# Altium schematic symbol library SparkFun-Connectors.SCHLIB: 399 symbols (part 3 of 4)
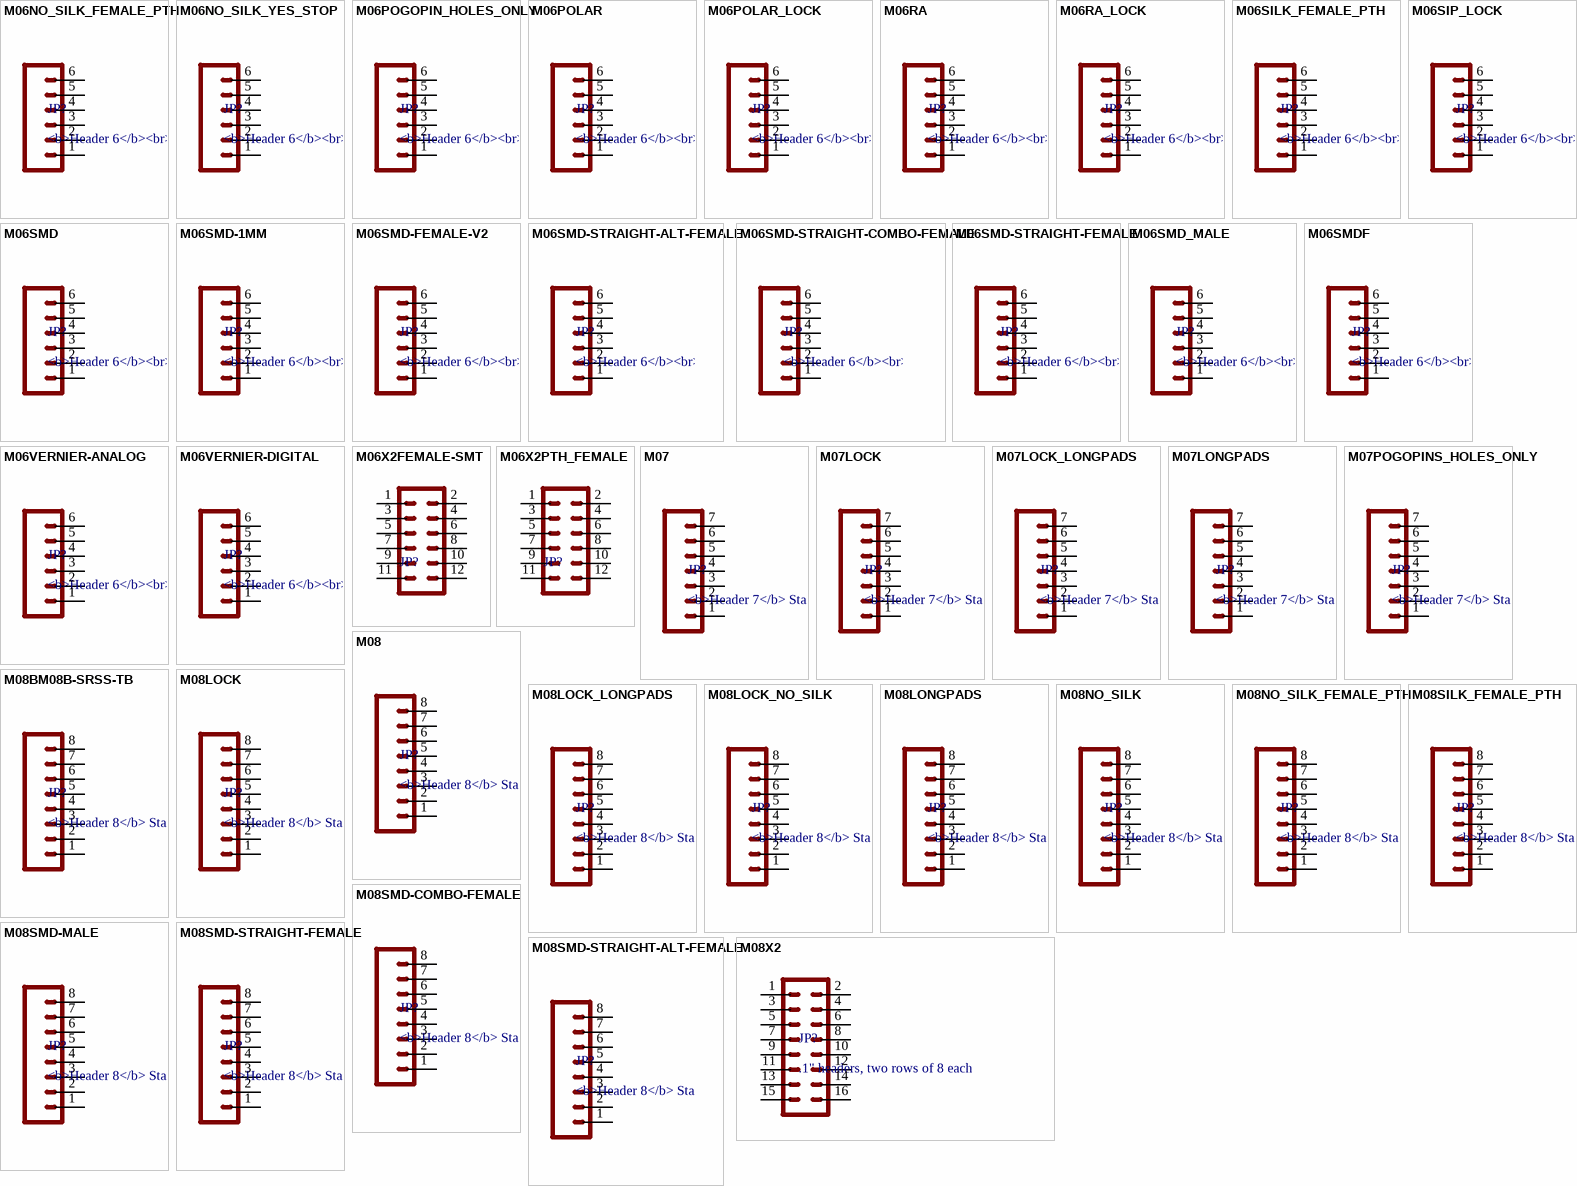
[diagram p16: symbols M06NO_SILK_FEMALE_PTH to M08X2]

## M07POGOPINS_HOLES_ONLY
designator JP?, comment <b>Header 7</b> / Standard 7-pin 0.1" header. Use with straight break away headers (SKU : PRT-00116), right angle break away headers (PRT-00553), swiss pins (PRT-00743), machine pins (PRT-00117), and female headers (PRT-00115).  NOTES ON THE VARIANTS LOCK and LOCK_LONGPADS... This footprint was designed to help hold the alignment of a through-hole component (i.e. 7-pin header) while soldering it into place. You may notice that each hole has been shifted either up or down by 0.005 of an inch from it's more standard position (which is usually a perfectly straight line). This slight alteration caused the pins (the squares in the middle) to touch the edges of the holes. Because they are alternating, it causes a "brace" to hold the header in place. 0.005 has proven to be the perfect amount of "off-center" position when using our standard breakaway headers. Although looks a little odd when you look at the bare footprint, once you have a header in there, the alteration is very hard to notice. Also, if you push a header all the way into place, it is covered up entirely on the bottom side. This idea of altering the position of holes to aid alignment will be further integrated into the Sparkfun Library for other footprints. It can help hold any component with 3 or more connection pins.
footprint 1X07_HOLES_ONLY
pins: 1, 2, 3, 4, 5, 6, 7

## M08
designator JP?, comment <b>Header 8</b> / Standard 8-pin 0.1" header. Use with straight break away headers (SKU : PRT-00116), right angle break away headers (PRT-00553), swiss pins (PRT-00743), machine pins (PRT-00117), and female headers (PRT-00115).
footprint 1X08_ROUND
pins: 1, 2, 3, 4, 5, 6, 7, 8

## M08BM08B-SRSS-TB
designator JP?, comment <b>Header 8</b> / Standard 8-pin 0.1" header. Use with straight break away headers (SKU : PRT-00116), right angle break away headers (PRT-00553), swiss pins (PRT-00743), machine pins (PRT-00117), and female headers (PRT-00115).
footprint BM08B-SRSS-TB
pins: 1, 2, 3, 4, 5, 6, 7, 8

## M08LOCK
designator JP?, comment <b>Header 8</b> / Standard 8-pin 0.1" header. Use with straight break away headers (SKU : PRT-00116), right angle break away headers (PRT-00553), swiss pins (PRT-00743), machine pins (PRT-00117), and female headers (PRT-00115).
footprint 1X08_LOCK
pins: 1, 2, 3, 4, 5, 6, 7, 8

## M08LOCK_LONGPADS
designator JP?, comment <b>Header 8</b> / Standard 8-pin 0.1" header. Use with straight break away headers (SKU : PRT-00116), right angle break away headers (PRT-00553), swiss pins (PRT-00743), machine pins (PRT-00117), and female headers (PRT-00115).
footprint 1X08_LOCK_LONGPADS
pins: 1, 2, 3, 4, 5, 6, 7, 8

## M08LOCK_NO_SILK
designator JP?, comment <b>Header 8</b> / Standard 8-pin 0.1" header. Use with straight break away headers (SKU : PRT-00116), right angle break away headers (PRT-00553), swiss pins (PRT-00743), machine pins (PRT-00117), and female headers (PRT-00115).
footprint 1X08_LOCK_NO_SILK
pins: 1, 2, 3, 4, 5, 6, 7, 8

## M08LONGPADS
designator JP?, comment <b>Header 8</b> / Standard 8-pin 0.1" header. Use with straight break away headers (SKU : PRT-00116), right angle break away headers (PRT-00553), swiss pins (PRT-00743), machine pins (PRT-00117), and female headers (PRT-00115).
footprint 1X08_LONGPADS
pins: 1, 2, 3, 4, 5, 6, 7, 8

## M08NO_SILK
designator JP?, comment <b>Header 8</b> / Standard 8-pin 0.1" header. Use with straight break away headers (SKU : PRT-00116), right angle break away headers (PRT-00553), swiss pins (PRT-00743), machine pins (PRT-00117), and female headers (PRT-00115).
footprint 1X08_PIN1_NO_SILK
pins: 1, 2, 3, 4, 5, 6, 7, 8

## M08NO_SILK_FEMALE_PTH
designator JP?, comment <b>Header 8</b> / Standard 8-pin 0.1" header. Use with straight break away headers (SKU : PRT-00116), right angle break away headers (PRT-00553), swiss pins (PRT-00743), machine pins (PRT-00117), and female headers (PRT-00115).
PROD_ID: CONN-08438
footprint 1X08_NO_SILK
pins: 1, 2, 3, 4, 5, 6, 7, 8

## M08SILK_FEMALE_PTH
designator JP?, comment <b>Header 8</b> / Standard 8-pin 0.1" header. Use with straight break away headers (SKU : PRT-00116), right angle break away headers (PRT-00553), swiss pins (PRT-00743), machine pins (PRT-00117), and female headers (PRT-00115).
PROD_ID: CONN-08438
footprint 1X08
pins: 1, 2, 3, 4, 5, 6, 7, 8

## M08SMD-COMBO-FEMALE
designator JP?, comment <b>Header 8</b> / Standard 8-pin 0.1" header. Use with straight break away headers (SKU : PRT-00116), right angle break away headers (PRT-00553), swiss pins (PRT-00743), machine pins (PRT-00117), and female headers (PRT-00115).
PROD_ID: CONN-10204
footprint 1X08_SMD_COMBINED
pins: 1, 2, 3, 4, 5, 6, 7, 8

## M08SMD-MALE
designator JP?, comment <b>Header 8</b> / Standard 8-pin 0.1" header. Use with straight break away headers (SKU : PRT-00116), right angle break away headers (PRT-00553), swiss pins (PRT-00743), machine pins (PRT-00117), and female headers (PRT-00115).
PROD_ID: CONN-11292
footprint 1X08_SMD_MALE
pins: 1, 2, 3, 4, 5, 6, 7, 8

## M08SMD-STRAIGHT-ALT-FEMALE
designator JP?, comment <b>Header 8</b> / Standard 8-pin 0.1" header. Use with straight break away headers (SKU : PRT-00116), right angle break away headers (PRT-00553), swiss pins (PRT-00743), machine pins (PRT-00117), and female headers (PRT-00115).
PROD_ID: CONN-10204
footprint 1X08_SMD_ALT
pins: 1, 2, 3, 4, 5, 6, 7, 8

## M08SMD-STRAIGHT-FEMALE
designator JP?, comment <b>Header 8</b> / Standard 8-pin 0.1" header. Use with straight break away headers (SKU : PRT-00116), right angle break away headers (PRT-00553), swiss pins (PRT-00743), machine pins (PRT-00117), and female headers (PRT-00115).
PROD_ID: CONN-10204
footprint 1X08_SMD
pins: 1, 2, 3, 4, 5, 6, 7, 8

## M08X2
designator JP?, comment .1" headers, two rows of 8 each
footprint 2X8
pins: 1, 2, 3, 4, 5, 6, 7, 8, 9, 10, 11, 12, 13, 14, 15, 16

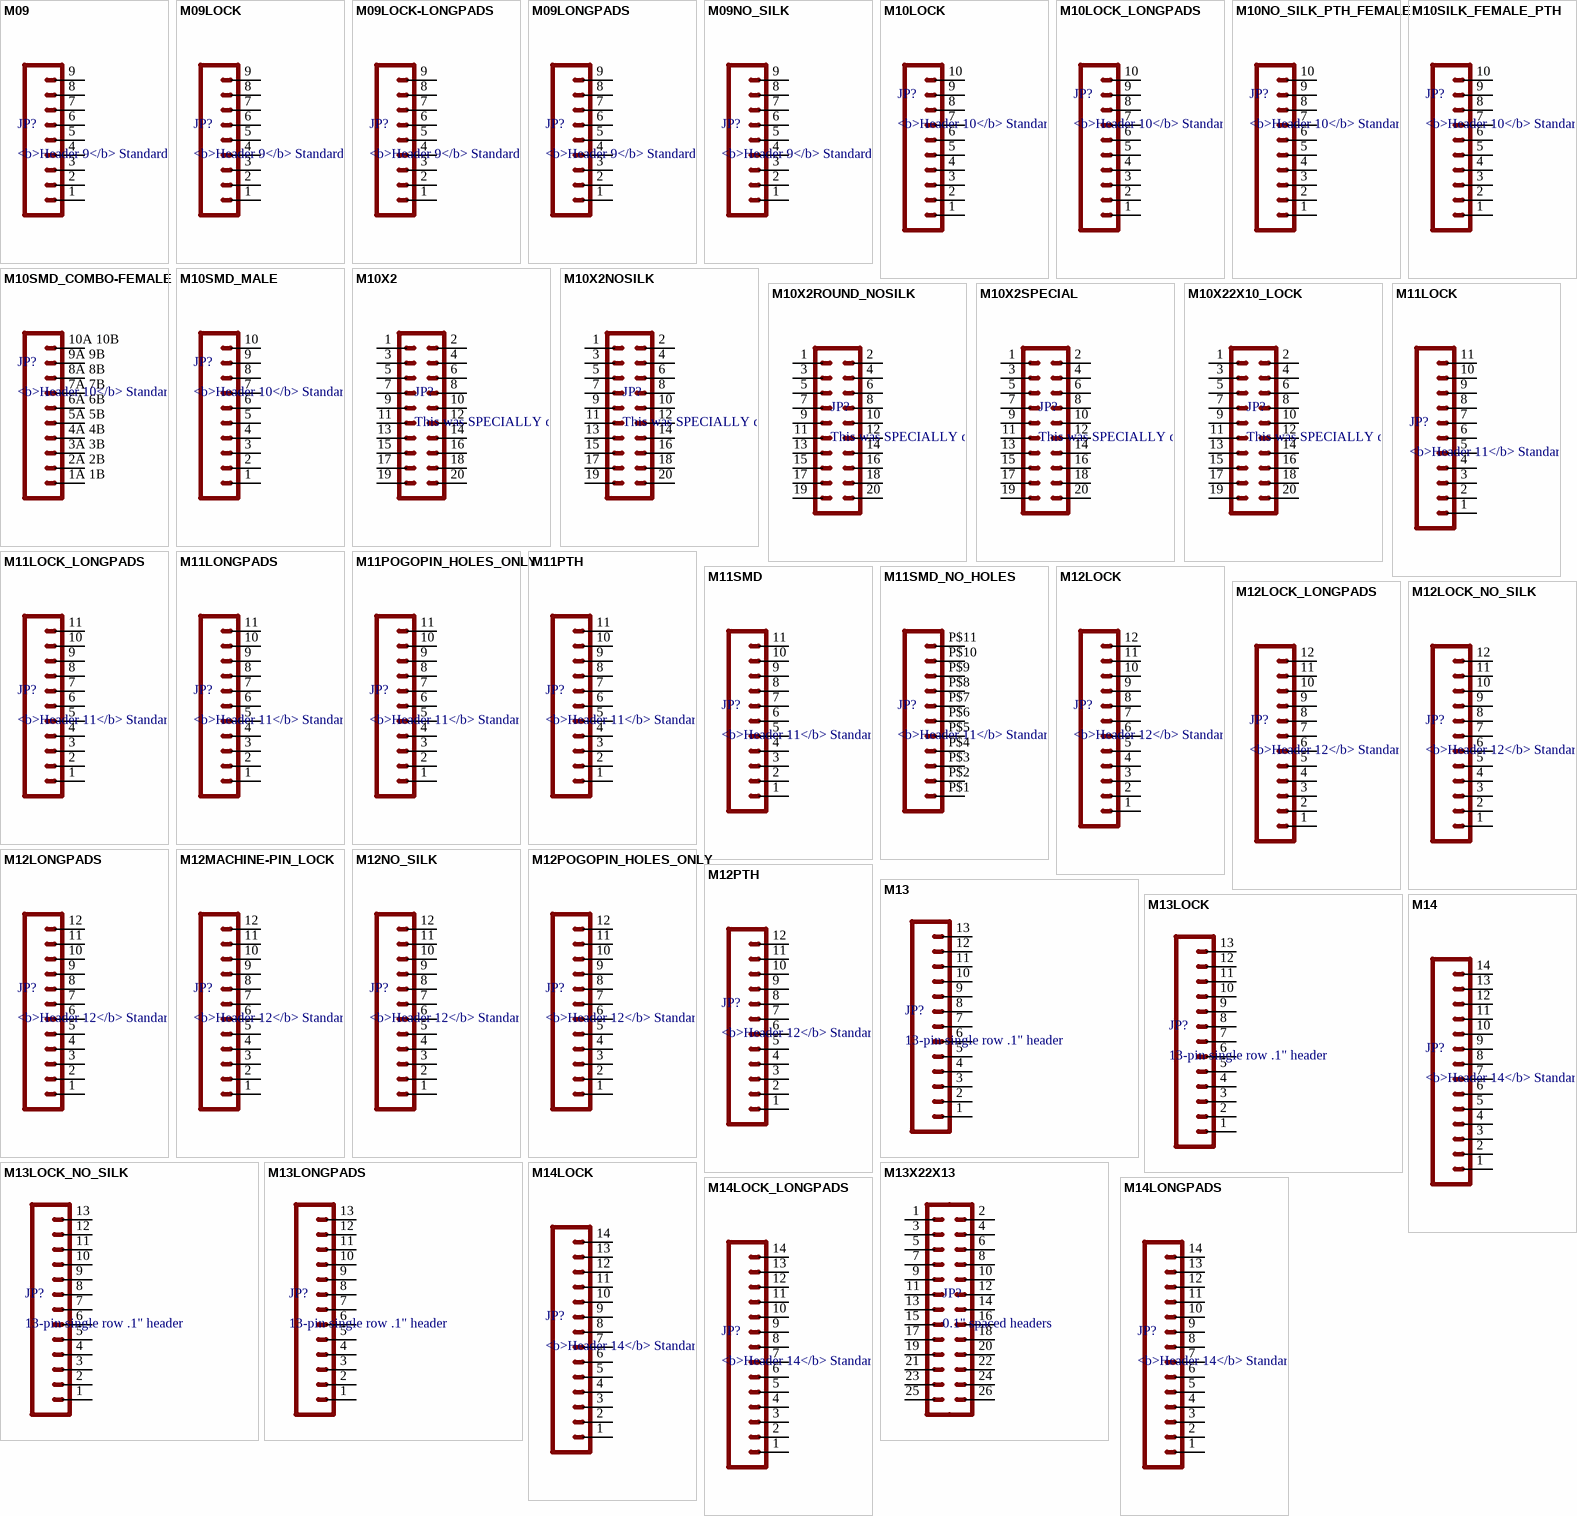
[diagram p8: symbols M09 to M14LONGPADS]

## M09
designator JP?, comment <b>Header 9</b> / Standard 9-pin 0.1" header. Use with straight break away headers (SKU : PRT-00116), right angle break away headers (PRT-00553), swiss pins (PRT-00743), machine pins (PRT-00117), and female headers (PRT-00115).
footprint 1X09
pins: 1, 2, 3, 4, 5, 6, 7, 8, 9

## M09LOCK
designator JP?, comment <b>Header 9</b> / Standard 9-pin 0.1" header. Use with straight break away headers (SKU : PRT-00116), right angle break away headers (PRT-00553), swiss pins (PRT-00743), machine pins (PRT-00117), and female headers (PRT-00115).
footprint 1X09_LOCK
pins: 1, 2, 3, 4, 5, 6, 7, 8, 9

## M09LOCK-LONGPADS
designator JP?, comment <b>Header 9</b> / Standard 9-pin 0.1" header. Use with straight break away headers (SKU : PRT-00116), right angle break away headers (PRT-00553), swiss pins (PRT-00743), machine pins (PRT-00117), and female headers (PRT-00115).
footprint 1X09_LOCK_LONGPADS
pins: 1, 2, 3, 4, 5, 6, 7, 8, 9

## M09LONGPADS
designator JP?, comment <b>Header 9</b> / Standard 9-pin 0.1" header. Use with straight break away headers (SKU : PRT-00116), right angle break away headers (PRT-00553), swiss pins (PRT-00743), machine pins (PRT-00117), and female headers (PRT-00115).
footprint 1X09_LONGPADS
pins: 1, 2, 3, 4, 5, 6, 7, 8, 9

## M09NO_SILK
designator JP?, comment <b>Header 9</b> / Standard 9-pin 0.1" header. Use with straight break away headers (SKU : PRT-00116), right angle break away headers (PRT-00553), swiss pins (PRT-00743), machine pins (PRT-00117), and female headers (PRT-00115).
footprint 1X09_NO_SILK
pins: 1, 2, 3, 4, 5, 6, 7, 8, 9

## M10LOCK
designator JP?, comment <b>Header 10</b> / Standard 10-pin 0.1" header. Use with straight break away headers (SKU : PRT-00116), right angle break away headers (PRT-00553), swiss pins (PRT-00743), machine pins (PRT-00117), and female headers (PRT-00115).
footprint 1X10_LOCK
pins: 1, 2, 3, 4, 5, 6, 7, 8, 9, 10

## M10LOCK_LONGPADS
designator JP?, comment <b>Header 10</b> / Standard 10-pin 0.1" header. Use with straight break away headers (SKU : PRT-00116), right angle break away headers (PRT-00553), swiss pins (PRT-00743), machine pins (PRT-00117), and female headers (PRT-00115).
footprint 1X10_LOCK_LONGPADS
pins: 1, 2, 3, 4, 5, 6, 7, 8, 9, 10

## M10NO_SILK_PTH_FEMALE
designator JP?, comment <b>Header 10</b> / Standard 10-pin 0.1" header. Use with straight break away headers (SKU : PRT-00116), right angle break away headers (PRT-00553), swiss pins (PRT-00743), machine pins (PRT-00117), and female headers (PRT-00115).
PROD_ID: CONN-11563
footprint 1X10_NO_SILK
pins: 1, 2, 3, 4, 5, 6, 7, 8, 9, 10

## M10SILK_FEMALE_PTH
designator JP?, comment <b>Header 10</b> / Standard 10-pin 0.1" header. Use with straight break away headers (SKU : PRT-00116), right angle break away headers (PRT-00553), swiss pins (PRT-00743), machine pins (PRT-00117), and female headers (PRT-00115).
PROD_ID: CONN-11563
footprint 1X10
pins: 1, 2, 3, 4, 5, 6, 7, 8, 9, 10

## M10SMD_COMBO-FEMALE
designator JP?, comment <b>Header 10</b> / Standard 10-pin 0.1" header. Use with straight break away headers (SKU : PRT-00116), right angle break away headers (PRT-00553), swiss pins (PRT-00743), machine pins (PRT-00117), and female headers (PRT-00115).
PROD_ID: CONN-11219
footprint 1X10_SMD_COMBINED
pins: 1A 1B 1, 2A 2B 2, 3A 3B 3, 4A 4B 4, 5A 5B 5, 6A 6B 6, 7A 7B 7, 8A 8B 8, 9A 9B 9, 10A 10B 10

## M10SMD_MALE
designator JP?, comment <b>Header 10</b> / Standard 10-pin 0.1" header. Use with straight break away headers (SKU : PRT-00116), right angle break away headers (PRT-00553), swiss pins (PRT-00743), machine pins (PRT-00117), and female headers (PRT-00115).
PROD_ID: CONN-11291
footprint 1X10_SMD_MALE
pins: 1, 2, 3, 4, 5, 6, 7, 8, 9, 10

## M10X2
designator JP?, comment This was SPECIALLY designed to be used with our Graphic LCD Backpack.  Be sure you want to use this!  It is not only staggered on each line of header holes, but IT IS ALSO offset of the center point of the top and bottom lines by 5 mil.  This causes the headers to lock into place on the "standard" footprint on the LCD screen.  The extra squares on the tdocu layer are there simply to reference other pins (if you were to actually populate a longer header than ten long - this is what we do with the backpacks).
footprint 2X10
pins: 1, 2, 3, 4, 5, 6, 7, 8, 9, 10, 11, 12, 13, 14, 15, 16, 17, 18, 19, 20

## M10X2NOSILK
designator JP?, comment This was SPECIALLY designed to be used with our Graphic LCD Backpack.  Be sure you want to use this!  It is not only staggered on each line of header holes, but IT IS ALSO offset of the center point of the top and bottom lines by 5 mil.  This causes the headers to lock into place on the "standard" footprint on the LCD screen.  The extra squares on the tdocu layer are there simply to reference other pins (if you were to actually populate a longer header than ten long - this is what we do with the backpacks).
footprint 2X10_NOSILK
pins: 1, 2, 3, 4, 5, 6, 7, 8, 9, 10, 11, 12, 13, 14, 15, 16, 17, 18, 19, 20

## M10X2ROUND_NOSILK
designator JP?, comment This was SPECIALLY designed to be used with our Graphic LCD Backpack.  Be sure you want to use this!  It is not only staggered on each line of header holes, but IT IS ALSO offset of the center point of the top and bottom lines by 5 mil.  This causes the headers to lock into place on the "standard" footprint on the LCD screen.  The extra squares on the tdocu layer are there simply to reference other pins (if you were to actually populate a longer header than ten long - this is what we do with the backpacks).
footprint 2X10_ROUND_NOSILK
pins: 1, 2, 3, 4, 5, 6, 7, 8, 9, 10, 11, 12, 13, 14, 15, 16, 17, 18, 19, 20

## M10X2SPECIAL
designator JP?, comment This was SPECIALLY designed to be used with our Graphic LCD Backpack.  Be sure you want to use this!  It is not only staggered on each line of header holes, but IT IS ALSO offset of the center point of the top and bottom lines by 5 mil.  This causes the headers to lock into place on the "standard" footprint on the LCD screen.  The extra squares on the tdocu layer are there simply to reference other pins (if you were to actually populate a longer header than ten long - this is what we do with the backpacks).
footprint 2X10_LOCK_SPECIAL
pins: 1, 2, 3, 4, 5, 6, 7, 8, 9, 10, 11, 12, 13, 14, 15, 16, 17, 18, 19, 20

## M10X22X10_LOCK
designator JP?, comment This was SPECIALLY designed to be used with our Graphic LCD Backpack.  Be sure you want to use this!  It is not only staggered on each line of header holes, but IT IS ALSO offset of the center point of the top and bottom lines by 5 mil.  This causes the headers to lock into place on the "standard" footprint on the LCD screen.  The extra squares on the tdocu layer are there simply to reference other pins (if you were to actually populate a longer header than ten long - this is what we do with the backpacks).
footprint 2X10_LOCK
pins: 1, 2, 3, 4, 5, 6, 7, 8, 9, 10, 11, 12, 13, 14, 15, 16, 17, 18, 19, 20

## M11LOCK
designator JP?, comment <b>Header 11</b> / Standard 11-pin 0.1" header. Use with straight break away headers (SKU : PRT-00116), right angle break away headers (PRT-00553), swiss pins (PRT-00743), machine pins (PRT-00117), and female headers (PRT-00115).
footprint 1X11_LOCK
pins: 1, 2, 3, 4, 5, 6, 7, 8, 9, 10, 11

## M11LOCK_LONGPADS
designator JP?, comment <b>Header 11</b> / Standard 11-pin 0.1" header. Use with straight break away headers (SKU : PRT-00116), right angle break away headers (PRT-00553), swiss pins (PRT-00743), machine pins (PRT-00117), and female headers (PRT-00115).
footprint 1X11_LOCK_LONGPADS
pins: 1, 2, 3, 4, 5, 6, 7, 8, 9, 10, 11

## M11LONGPADS
designator JP?, comment <b>Header 11</b> / Standard 11-pin 0.1" header. Use with straight break away headers (SKU : PRT-00116), right angle break away headers (PRT-00553), swiss pins (PRT-00743), machine pins (PRT-00117), and female headers (PRT-00115).
footprint 1X11_LONGPADS
pins: 1, 2, 3, 4, 5, 6, 7, 8, 9, 10, 11

## M11POGOPIN_HOLES_ONLY
designator JP?, comment <b>Header 11</b> / Standard 11-pin 0.1" header. Use with straight break away headers (SKU : PRT-00116), right angle break away headers (PRT-00553), swiss pins (PRT-00743), machine pins (PRT-00117), and female headers (PRT-00115).
footprint 1X11_HOLES_ONLY
pins: 1, 2, 3, 4, 5, 6, 7, 8, 9, 10, 11

## M11PTH
designator JP?, comment <b>Header 11</b> / Standard 11-pin 0.1" header. Use with straight break away headers (SKU : PRT-00116), right angle break away headers (PRT-00553), swiss pins (PRT-00743), machine pins (PRT-00117), and female headers (PRT-00115).
footprint 1X11
pins: 1, 2, 3, 4, 5, 6, 7, 8, 9, 10, 11

## M11SMD
designator JP?, comment <b>Header 11</b> / Standard 11-pin 0.1" header. Use with straight break away headers (SKU : PRT-00116), right angle break away headers (PRT-00553), swiss pins (PRT-00743), machine pins (PRT-00117), and female headers (PRT-00115).
footprint 1X11_SMD_PTHCOMBO
pins: 1, 2, 3, 4, 5, 6, 7, 8, 9, 10, 11

## M11SMD_NO_HOLES
designator JP?, comment <b>Header 11</b> / Standard 11-pin 0.1" header. Use with straight break away headers (SKU : PRT-00116), right angle break away headers (PRT-00553), swiss pins (PRT-00743), machine pins (PRT-00117), and female headers (PRT-00115).
footprint 1X11_SMD_NO_HOLES
pins: P$1 1, P$2 2, P$3 3, P$4 4, P$5 5, P$6 6, P$7 7, P$8 8, P$9 9, P$10 10, P$11 11

## M12LOCK
designator JP?, comment <b>Header 12</b> / Standard 12-pin 0.1" header. Use with straight break away headers (SKU : PRT-00116), right angle break away headers (PRT-00553), swiss pins (PRT-00743), machine pins (PRT-00117), and female headers (PRT-00115).
footprint 1X12_LOCK
pins: 1, 2, 3, 4, 5, 6, 7, 8, 9, 10, 11, 12

## M12LOCK_LONGPADS
designator JP?, comment <b>Header 12</b> / Standard 12-pin 0.1" header. Use with straight break away headers (SKU : PRT-00116), right angle break away headers (PRT-00553), swiss pins (PRT-00743), machine pins (PRT-00117), and female headers (PRT-00115).
footprint 1X12_LOCK_LONGPADS
pins: 1, 2, 3, 4, 5, 6, 7, 8, 9, 10, 11, 12

## M12LOCK_NO_SILK
designator JP?, comment <b>Header 12</b> / Standard 12-pin 0.1" header. Use with straight break away headers (SKU : PRT-00116), right angle break away headers (PRT-00553), swiss pins (PRT-00743), machine pins (PRT-00117), and female headers (PRT-00115).
footprint 1X12_LOCK_NO_SILK
pins: 1, 2, 3, 4, 5, 6, 7, 8, 9, 10, 11, 12

## M12LONGPADS
designator JP?, comment <b>Header 12</b> / Standard 12-pin 0.1" header. Use with straight break away headers (SKU : PRT-00116), right angle break away headers (PRT-00553), swiss pins (PRT-00743), machine pins (PRT-00117), and female headers (PRT-00115).
footprint 1X12_LONGPADS
pins: 1, 2, 3, 4, 5, 6, 7, 8, 9, 10, 11, 12

## M12MACHINE-PIN_LOCK
designator JP?, comment <b>Header 12</b> / Standard 12-pin 0.1" header. Use with straight break away headers (SKU : PRT-00116), right angle break away headers (PRT-00553), swiss pins (PRT-00743), machine pins (PRT-00117), and female headers (PRT-00115).
footprint 1X12_MACHINE-PIN-HEADER_LOCK.004
pins: 1, 2, 3, 4, 5, 6, 7, 8, 9, 10, 11, 12

## M12NO_SILK
designator JP?, comment <b>Header 12</b> / Standard 12-pin 0.1" header. Use with straight break away headers (SKU : PRT-00116), right angle break away headers (PRT-00553), swiss pins (PRT-00743), machine pins (PRT-00117), and female headers (PRT-00115).
footprint 1X12_NO_SILK
pins: 1, 2, 3, 4, 5, 6, 7, 8, 9, 10, 11, 12

## M12POGOPIN_HOLES_ONLY
designator JP?, comment <b>Header 12</b> / Standard 12-pin 0.1" header. Use with straight break away headers (SKU : PRT-00116), right angle break away headers (PRT-00553), swiss pins (PRT-00743), machine pins (PRT-00117), and female headers (PRT-00115).
footprint 1X12_HOLES_ONLY
pins: 1, 2, 3, 4, 5, 6, 7, 8, 9, 10, 11, 12

## M12PTH
designator JP?, comment <b>Header 12</b> / Standard 12-pin 0.1" header. Use with straight break away headers (SKU : PRT-00116), right angle break away headers (PRT-00553), swiss pins (PRT-00743), machine pins (PRT-00117), and female headers (PRT-00115).
footprint 1X12
pins: 1, 2, 3, 4, 5, 6, 7, 8, 9, 10, 11, 12

## M13
designator JP?, comment 13-pin single row .1" header
footprint 1X13
pins: 1, 2, 3, 4, 5, 6, 7, 8, 9, 10, 11, 12, 13

## M13LOCK
designator JP?, comment 13-pin single row .1" header
footprint 1X13_LOCK
pins: 1, 2, 3, 4, 5, 6, 7, 8, 9, 10, 11, 12, 13

## M13LOCK_NO_SILK
designator JP?, comment 13-pin single row .1" header
footprint 1X13_LOCK_NO_SILK
pins: 1, 2, 3, 4, 5, 6, 7, 8, 9, 10, 11, 12, 13

## M13LONGPADS
designator JP?, comment 13-pin single row .1" header
footprint 1X13-LONGPADS
pins: 1, 2, 3, 4, 5, 6, 7, 8, 9, 10, 11, 12, 13

## M13X22X13
designator JP?, comment 0.1" spaced headers
footprint 2X13
pins: 1, 2, 3, 4, 5, 6, 7, 8, 9, 10, 11, 12, 13, 14, 15, 16, 17, 18, 19, 20, 21, 22, 23, 24, 25, 26

## M14
designator JP?, comment <b>Header 14</b> / Standard 14-pin 0.1" header. Use with straight break away headers (SKU : PRT-00116), right angle break away headers (PRT-00553), swiss pins (PRT-00743), machine pins (PRT-00117), and female headers (PRT-00115).
footprint 1X14
pins: 1, 2, 3, 4, 5, 6, 7, 8, 9, 10, 11, 12, 13, 14

## M14LOCK
designator JP?, comment <b>Header 14</b> / Standard 14-pin 0.1" header. Use with straight break away headers (SKU : PRT-00116), right angle break away headers (PRT-00553), swiss pins (PRT-00743), machine pins (PRT-00117), and female headers (PRT-00115).
footprint 1X14_LOCK
pins: 1, 2, 3, 4, 5, 6, 7, 8, 9, 10, 11, 12, 13, 14

## M14LOCK_LONGPADS
designator JP?, comment <b>Header 14</b> / Standard 14-pin 0.1" header. Use with straight break away headers (SKU : PRT-00116), right angle break away headers (PRT-00553), swiss pins (PRT-00743), machine pins (PRT-00117), and female headers (PRT-00115).
footprint 1X14_LOCK_LONGPADS
pins: 1, 2, 3, 4, 5, 6, 7, 8, 9, 10, 11, 12, 13, 14

## M14LONGPADS
designator JP?, comment <b>Header 14</b> / Standard 14-pin 0.1" header. Use with straight break away headers (SKU : PRT-00116), right angle break away headers (PRT-00553), swiss pins (PRT-00743), machine pins (PRT-00117), and female headers (PRT-00115).
footprint 1X14-LONGPADS
pins: 1, 2, 3, 4, 5, 6, 7, 8, 9, 10, 11, 12, 13, 14

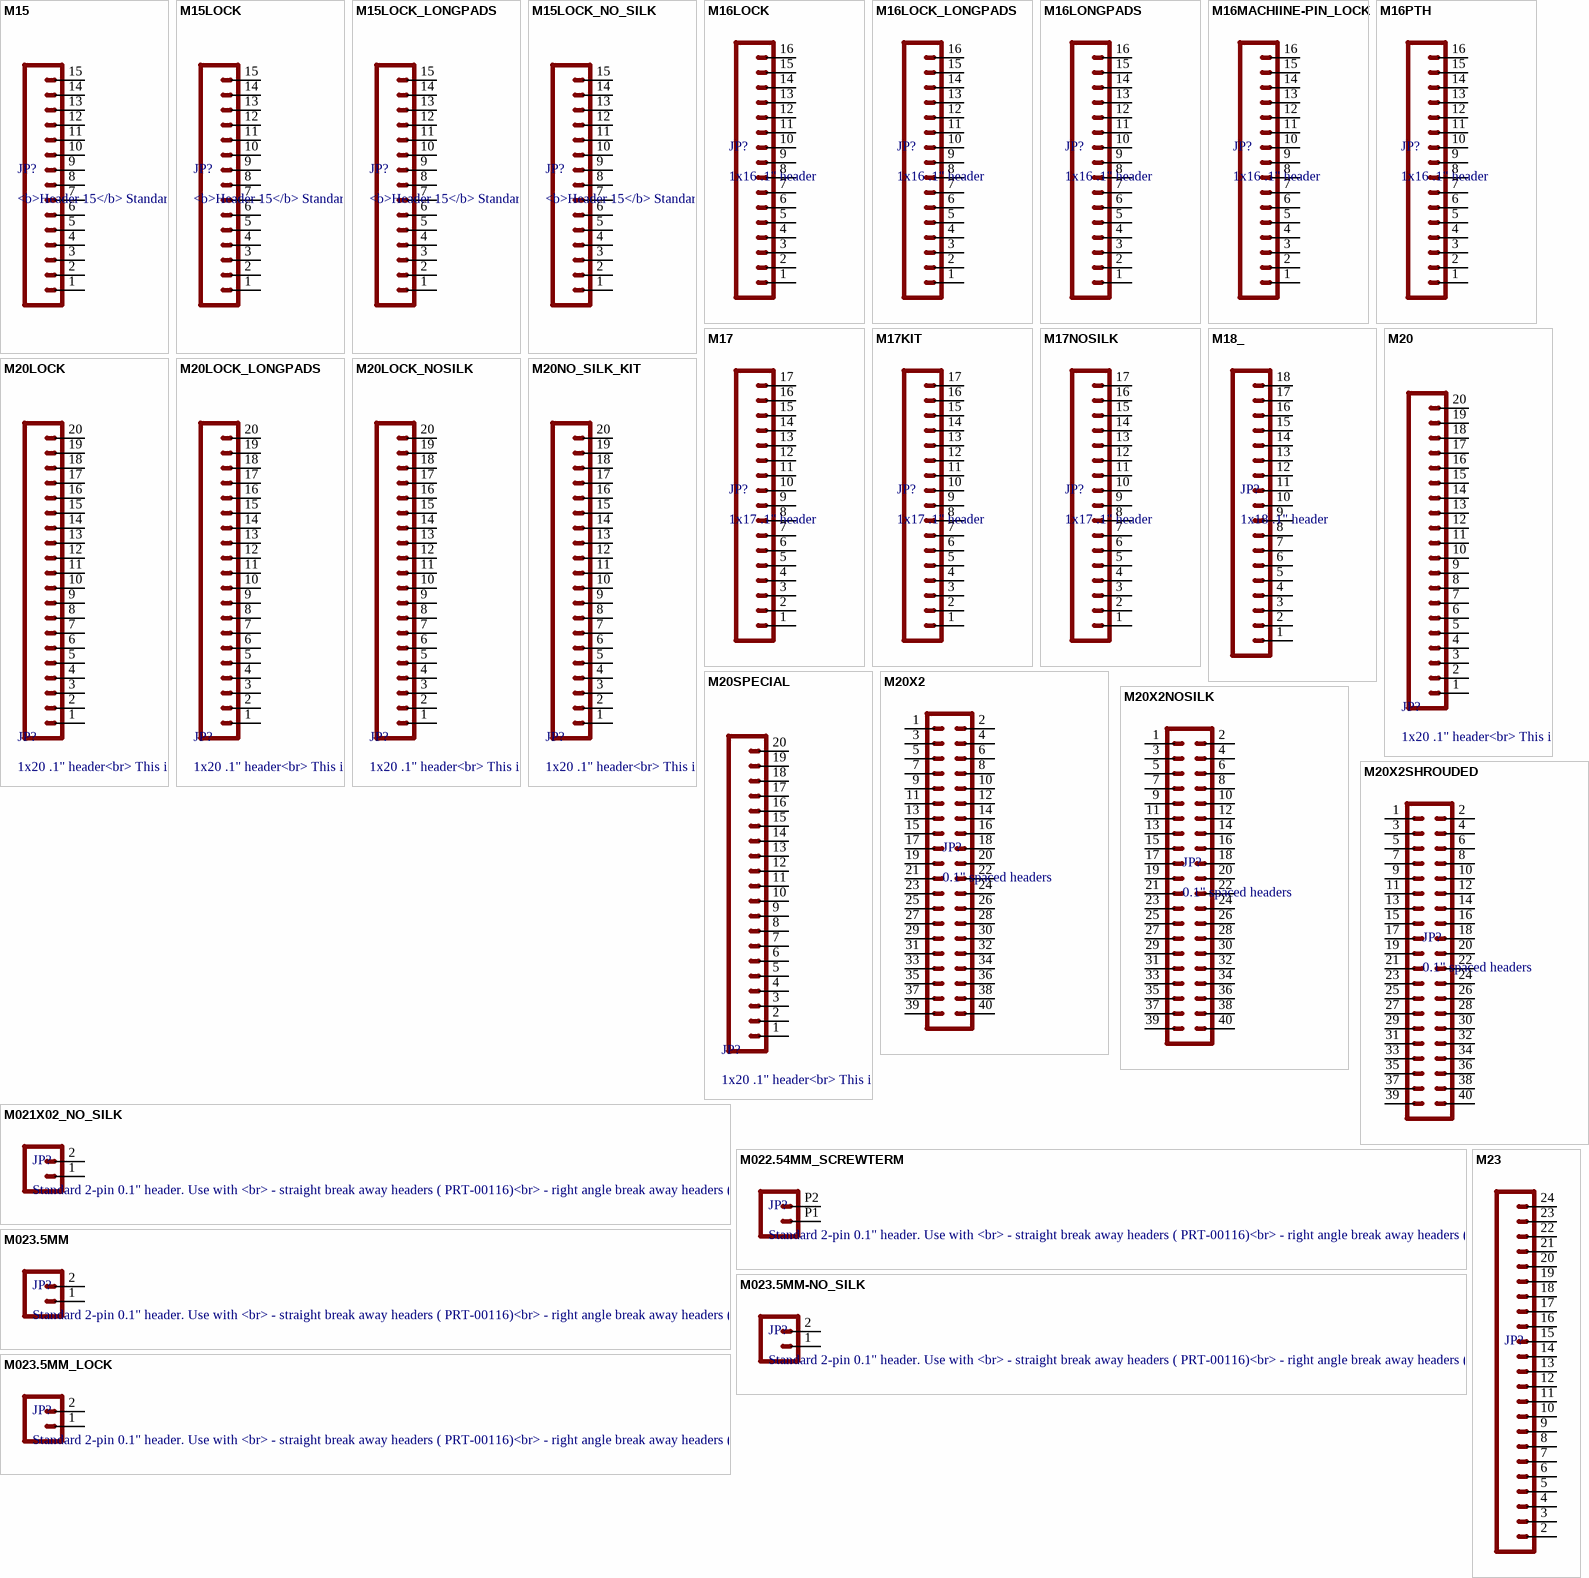
[diagram p9: symbols M15 to M023.5MM_LOCK]

## M15
designator JP?, comment <b>Header 15</b> / Standard 15-pin 0.1" header. Use with straight break away headers (SKU : PRT-00116), right angle break away headers (PRT-00553), swiss pins (PRT-00743), machine pins (PRT-00117), and female headers (PRT-00115).
footprint 1X15
pins: 1, 2, 3, 4, 5, 6, 7, 8, 9, 10, 11, 12, 13, 14, 15

## M15LOCK
designator JP?, comment <b>Header 15</b> / Standard 15-pin 0.1" header. Use with straight break away headers (SKU : PRT-00116), right angle break away headers (PRT-00553), swiss pins (PRT-00743), machine pins (PRT-00117), and female headers (PRT-00115).
footprint 1X15_LOCK
pins: 1, 2, 3, 4, 5, 6, 7, 8, 9, 10, 11, 12, 13, 14, 15

## M15LOCK_LONGPADS
designator JP?, comment <b>Header 15</b> / Standard 15-pin 0.1" header. Use with straight break away headers (SKU : PRT-00116), right angle break away headers (PRT-00553), swiss pins (PRT-00743), machine pins (PRT-00117), and female headers (PRT-00115).
footprint 1X15_LOCK_LONGPADS
pins: 1, 2, 3, 4, 5, 6, 7, 8, 9, 10, 11, 12, 13, 14, 15

## M15LOCK_NO_SILK
designator JP?, comment <b>Header 15</b> / Standard 15-pin 0.1" header. Use with straight break away headers (SKU : PRT-00116), right angle break away headers (PRT-00553), swiss pins (PRT-00743), machine pins (PRT-00117), and female headers (PRT-00115).
footprint 1X15_LOCK_NO_SILK
pins: 1, 2, 3, 4, 5, 6, 7, 8, 9, 10, 11, 12, 13, 14, 15

## M16LOCK
designator JP?, comment 1x16 .1" header
footprint 1X16_LOCK
pins: 1, 2, 3, 4, 5, 6, 7, 8, 9, 10, 11, 12, 13, 14, 15, 16

## M16LOCK_LONGPADS
designator JP?, comment 1x16 .1" header
footprint 1X16_LOCK_LONGPADS
pins: 1, 2, 3, 4, 5, 6, 7, 8, 9, 10, 11, 12, 13, 14, 15, 16

## M16LONGPADS
designator JP?, comment 1x16 .1" header
footprint 1X16_LONGPADS
pins: 1, 2, 3, 4, 5, 6, 7, 8, 9, 10, 11, 12, 13, 14, 15, 16

## M16MACHIINE-PIN_LOCK
designator JP?, comment 1x16 .1" header
footprint 1X16_MACHINE-PIN-HEADER_LOCK.004
pins: 1, 2, 3, 4, 5, 6, 7, 8, 9, 10, 11, 12, 13, 14, 15, 16

## M16PTH
designator JP?, comment 1x16 .1" header
footprint 1X16
pins: 1, 2, 3, 4, 5, 6, 7, 8, 9, 10, 11, 12, 13, 14, 15, 16

## M17
designator JP?, comment 1x17 .1" header
footprint 1X17
pins: 1, 2, 3, 4, 5, 6, 7, 8, 9, 10, 11, 12, 13, 14, 15, 16, 17

## M17KIT
designator JP?, comment 1x17 .1" header
footprint 1X17_NO_SILK_KIT
pins: 1, 2, 3, 4, 5, 6, 7, 8, 9, 10, 11, 12, 13, 14, 15, 16, 17

## M17NOSILK
designator JP?, comment 1x17 .1" header
footprint 1X17_NO_SILK
pins: 1, 2, 3, 4, 5, 6, 7, 8, 9, 10, 11, 12, 13, 14, 15, 16, 17

## M18_
designator JP?, comment 1x18 .1" header
footprint 1X18
pins: 1, 2, 3, 4, 5, 6, 7, 8, 9, 10, 11, 12, 13, 14, 15, 16, 17, 18

## M20
designator JP?, comment 1x20 .1" header<br> / This is just like the LOCK variant in that the holes are staggared by 5 mil, but except for the last two holes.  They are not altered from the "standard" footprint layout.  This is used for a special purpose on the layout of our Graphic LCD Backpack.  Make sure you want to use this device before selecting it for you project!
footprint 1X20
pins: 1, 2, 3, 4, 5, 6, 7, 8, 9, 10, 11, 12, 13, 14, 15, 16, 17, 18, 19, 20

## M20LOCK
designator JP?, comment 1x20 .1" header<br> / This is just like the LOCK variant in that the holes are staggared by 5 mil, but except for the last two holes.  They are not altered from the "standard" footprint layout.  This is used for a special purpose on the layout of our Graphic LCD Backpack.  Make sure you want to use this device before selecting it for you project!
footprint 1X20_LOCK
pins: 1, 2, 3, 4, 5, 6, 7, 8, 9, 10, 11, 12, 13, 14, 15, 16, 17, 18, 19, 20

## M20LOCK_LONGPADS
designator JP?, comment 1x20 .1" header<br> / This is just like the LOCK variant in that the holes are staggared by 5 mil, but except for the last two holes.  They are not altered from the "standard" footprint layout.  This is used for a special purpose on the layout of our Graphic LCD Backpack.  Make sure you want to use this device before selecting it for you project!
footprint 1X20_LOCK_LONGPADS
pins: 1, 2, 3, 4, 5, 6, 7, 8, 9, 10, 11, 12, 13, 14, 15, 16, 17, 18, 19, 20

## M20LOCK_NOSILK
designator JP?, comment 1x20 .1" header<br> / This is just like the LOCK variant in that the holes are staggared by 5 mil, but except for the last two holes.  They are not altered from the "standard" footprint layout.  This is used for a special purpose on the layout of our Graphic LCD Backpack.  Make sure you want to use this device before selecting it for you project!
PROD_ID: CONN-09864
footprint 1X20_LOCK_NOSILK
pins: 1, 2, 3, 4, 5, 6, 7, 8, 9, 10, 11, 12, 13, 14, 15, 16, 17, 18, 19, 20

## M20NO_SILK_KIT
designator JP?, comment 1x20 .1" header<br> / This is just like the LOCK variant in that the holes are staggared by 5 mil, but except for the last two holes.  They are not altered from the "standard" footprint layout.  This is used for a special purpose on the layout of our Graphic LCD Backpack.  Make sure you want to use this device before selecting it for you project!
footprint 1X20_NO_SILK_KIT
pins: 1, 2, 3, 4, 5, 6, 7, 8, 9, 10, 11, 12, 13, 14, 15, 16, 17, 18, 19, 20

## M20SPECIAL
designator JP?, comment 1x20 .1" header<br> / This is just like the LOCK variant in that the holes are staggared by 5 mil, but except for the last two holes.  They are not altered from the "standard" footprint layout.  This is used for a special purpose on the layout of our Graphic LCD Backpack.  Make sure you want to use this device before selecting it for you project!
footprint 1X20_LOCK_SPECIAL
pins: 1, 2, 3, 4, 5, 6, 7, 8, 9, 10, 11, 12, 13, 14, 15, 16, 17, 18, 19, 20

## M20X2
designator JP?, comment 0.1" spaced headers
footprint 2X20
pins: 1, 2, 3, 4, 5, 6, 7, 8, 9, 10, 11, 12, 13, 14, 15, 16, 17, 18, 19, 20, 21, 22, 23, 24, 25, 26, 27, 28, 29, 30, 31, 32, 33, 34, 35, 36, 37, 38, 39, 40

## M20X2NOSILK
designator JP?, comment 0.1" spaced headers
footprint 2X20_NOSILK
pins: 1, 2, 3, 4, 5, 6, 7, 8, 9, 10, 11, 12, 13, 14, 15, 16, 17, 18, 19, 20, 21, 22, 23, 24, 25, 26, 27, 28, 29, 30, 31, 32, 33, 34, 35, 36, 37, 38, 39, 40

## M20X2SHROUDED
designator JP?, comment 0.1" spaced headers
PROD_ID: CONN-12263
footprint 2X20_SHROUDED
pins: 1, 2, 3, 4, 5, 6, 7, 8, 9, 10, 11, 12, 13, 14, 15, 16, 17, 18, 19, 20, 21, 22, 23, 24, 25, 26, 27, 28, 29, 30, 31, 32, 33, 34, 35, 36, 37, 38, 39, 40

## M021X02_NO_SILK
designator JP?, comment Standard 2-pin 0.1" header. Use with <br> / - straight break away headers ( PRT-00116)<br> / - right angle break away headers (PRT-00553)<br> / - swiss pins (PRT-00743)<br> / - machine pins (PRT-00117)<br> / - female headers (PRT-00115)<br><br> / Molex polarized connector foot print use with: PRT-08233 with associated crimp pins and housings.<br><br> / 2.54_SCREWTERM for use with  PRT-10571.<br><br> / 3.5mm Screw Terminal footprints for  PRT-08084<br><br> / 5mm Screw Terminal footprints for use with PRT-08432
footprint 1X02_NO_SILK
pins: 1, 2

## M022.54MM_SCREWTERM
designator JP?, comment Standard 2-pin 0.1" header. Use with <br> / - straight break away headers ( PRT-00116)<br> / - right angle break away headers (PRT-00553)<br> / - swiss pins (PRT-00743)<br> / - machine pins (PRT-00117)<br> / - female headers (PRT-00115)<br><br> / Molex polarized connector foot print use with: PRT-08233 with associated crimp pins and housings.<br><br> / 2.54_SCREWTERM for use with  PRT-10571.<br><br> / 3.5mm Screw Terminal footprints for  PRT-08084<br><br> / 5mm Screw Terminal footprints for use with PRT-08432
footprint 1X02_2.54_SCREWTERM
pins: P1 1, P2 2

## M23
designator JP?
footprint 1X23
pins: 2, 3, 4, 5, 6, 7, 8, 9, 10, 11, 12, 13, 14, 15, 16, 17, 18, 19, 20, 21, 22, 23, 24

## M023.5MM
designator JP?, comment Standard 2-pin 0.1" header. Use with <br> / - straight break away headers ( PRT-00116)<br> / - right angle break away headers (PRT-00553)<br> / - swiss pins (PRT-00743)<br> / - machine pins (PRT-00117)<br> / - female headers (PRT-00115)<br><br> / Molex polarized connector foot print use with: PRT-08233 with associated crimp pins and housings.<br><br> / 2.54_SCREWTERM for use with  PRT-10571.<br><br> / 3.5mm Screw Terminal footprints for  PRT-08084<br><br> / 5mm Screw Terminal footprints for use with PRT-08432
PROD_ID: CONN-08399
footprint SCREWTERMINAL-3.5MM-2
pins: 1, 2

## M023.5MM-NO_SILK
designator JP?, comment Standard 2-pin 0.1" header. Use with <br> / - straight break away headers ( PRT-00116)<br> / - right angle break away headers (PRT-00553)<br> / - swiss pins (PRT-00743)<br> / - machine pins (PRT-00117)<br> / - female headers (PRT-00115)<br><br> / Molex polarized connector foot print use with: PRT-08233 with associated crimp pins and housings.<br><br> / 2.54_SCREWTERM for use with  PRT-10571.<br><br> / 3.5mm Screw Terminal footprints for  PRT-08084<br><br> / 5mm Screw Terminal footprints for use with PRT-08432
PROD_ID: CONN-08399
footprint SCREWTERMINAL-3.5MM-2-NS
pins: 1, 2

## M023.5MM_LOCK
designator JP?, comment Standard 2-pin 0.1" header. Use with <br> / - straight break away headers ( PRT-00116)<br> / - right angle break away headers (PRT-00553)<br> / - swiss pins (PRT-00743)<br> / - machine pins (PRT-00117)<br> / - female headers (PRT-00115)<br><br> / Molex polarized connector foot print use with: PRT-08233 with associated crimp pins and housings.<br><br> / 2.54_SCREWTERM for use with  PRT-10571.<br><br> / 3.5mm Screw Terminal footprints for  PRT-08084<br><br> / 5mm Screw Terminal footprints for use with PRT-08432
PROD_ID: CONN-08399
footprint SCREWTERMINAL-3.5MM-2_LOCK
pins: 1, 2

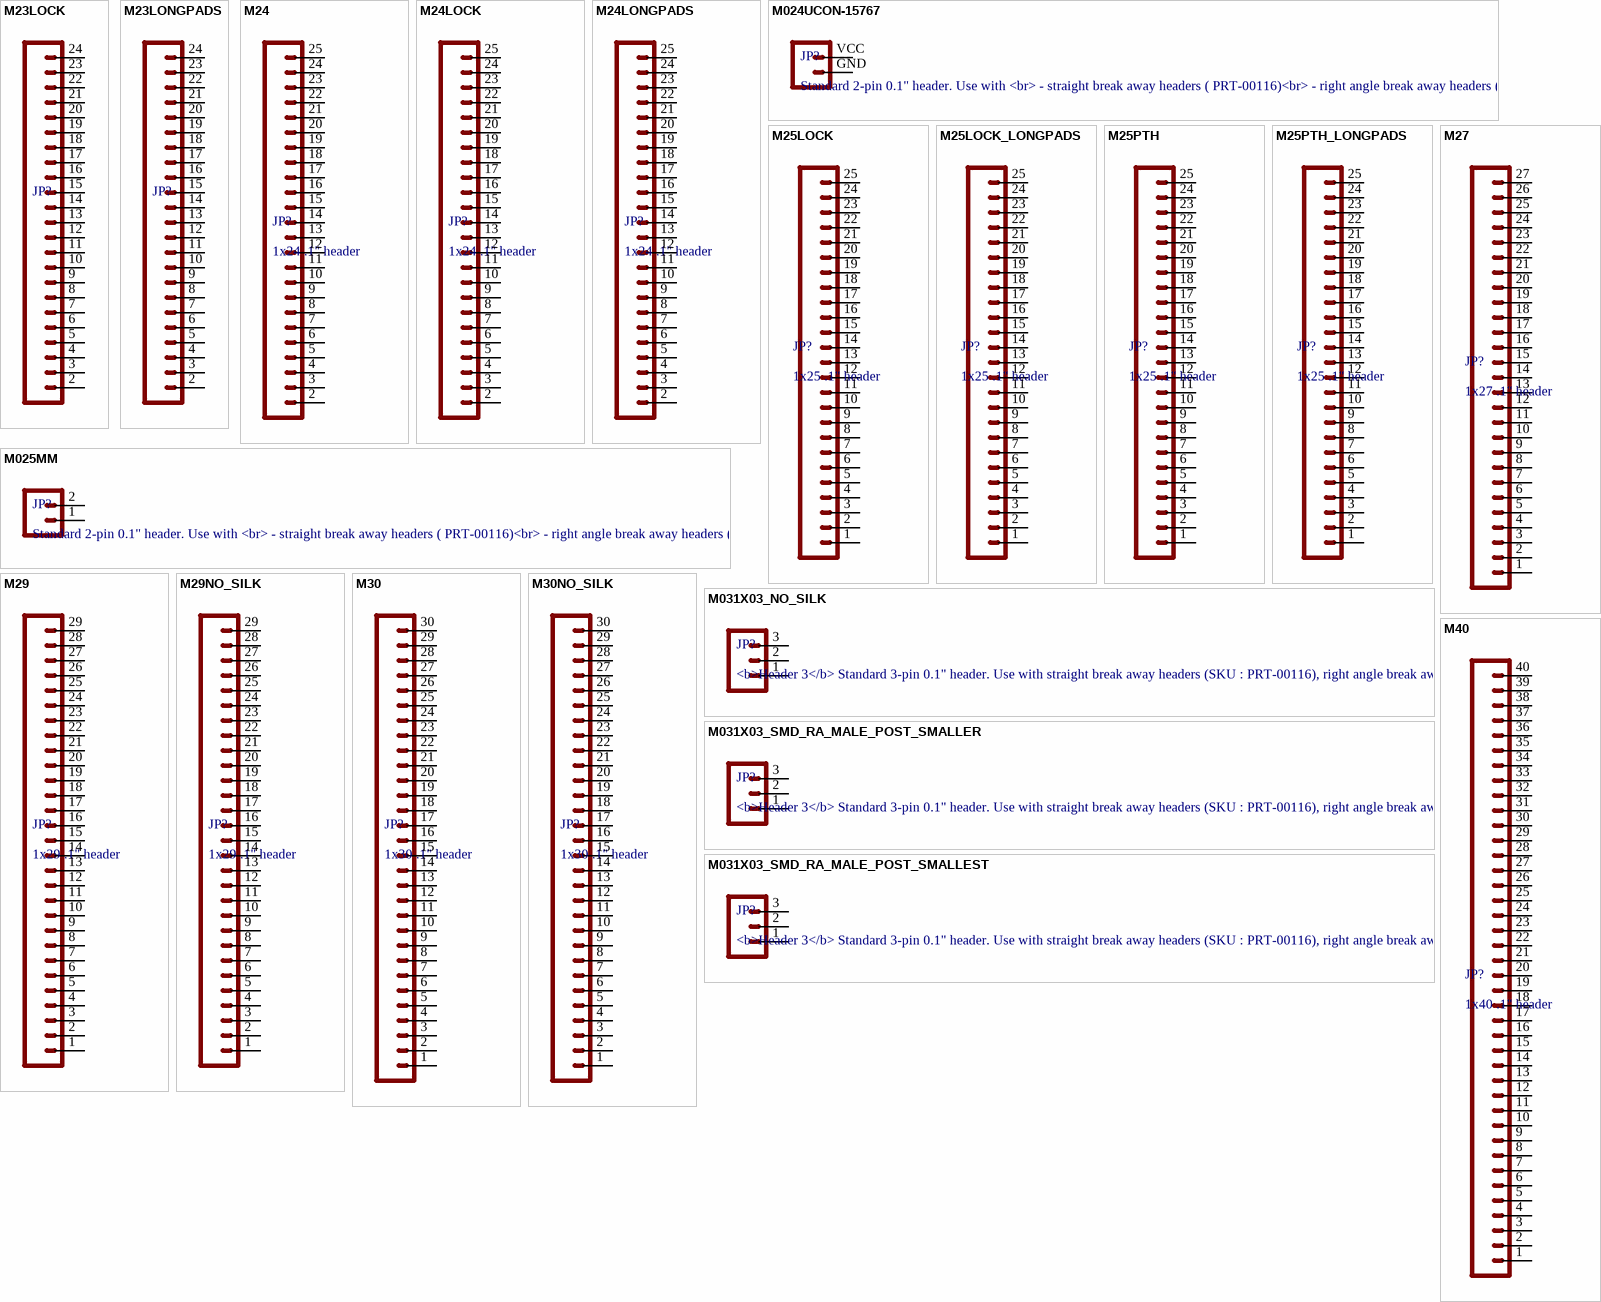
[diagram p10: symbols M23LOCK to M40]

## M23LOCK
designator JP?
footprint 1X23_LOCK
pins: 2, 3, 4, 5, 6, 7, 8, 9, 10, 11, 12, 13, 14, 15, 16, 17, 18, 19, 20, 21, 22, 23, 24

## M23LONGPADS
designator JP?
footprint 1X23_LONGPADS
pins: 2, 3, 4, 5, 6, 7, 8, 9, 10, 11, 12, 13, 14, 15, 16, 17, 18, 19, 20, 21, 22, 23, 24

## M24
designator JP?, comment 1x24 .1" header
footprint 1X24
pins: 2, 3, 4, 5, 6, 7, 8, 9, 10, 11, 12, 13, 14, 15, 16, 17, 18, 19, 20, 21, 22, 23, 24, 25

## M24LOCK
designator JP?, comment 1x24 .1" header
footprint 1X24_LOCK
pins: 2, 3, 4, 5, 6, 7, 8, 9, 10, 11, 12, 13, 14, 15, 16, 17, 18, 19, 20, 21, 22, 23, 24, 25

## M24LONGPADS
designator JP?, comment 1x24 .1" header
footprint 1X24_LONGPADS
pins: 2, 3, 4, 5, 6, 7, 8, 9, 10, 11, 12, 13, 14, 15, 16, 17, 18, 19, 20, 21, 22, 23, 24, 25

## M024UCON-15767
designator JP?, comment Standard 2-pin 0.1" header. Use with <br> / - straight break away headers ( PRT-00116)<br> / - right angle break away headers (PRT-00553)<br> / - swiss pins (PRT-00743)<br> / - machine pins (PRT-00117)<br> / - female headers (PRT-00115)<br><br> / Molex polarized connector foot print use with: PRT-08233 with associated crimp pins and housings.<br><br> / 2.54_SCREWTERM for use with  PRT-10571.<br><br> / 3.5mm Screw Terminal footprints for  PRT-08084<br><br> / 5mm Screw Terminal footprints for use with PRT-08432
footprint JST-2-SMD-VERT
pins: GND 1, VCC 2

## M25LOCK
designator JP?, comment 1x25 .1" header
footprint 1X25_LOCK
pins: 1, 2, 3, 4, 5, 6, 7, 8, 9, 10, 11, 12, 13, 14, 15, 16, 17, 18, 19, 20, 21, 22, 23, 24, 25

## M25LOCK_LONGPADS
designator JP?, comment 1x25 .1" header
footprint 1X25_LOCK_LONGPADS
pins: 1, 2, 3, 4, 5, 6, 7, 8, 9, 10, 11, 12, 13, 14, 15, 16, 17, 18, 19, 20, 21, 22, 23, 24, 25

## M025MM
designator JP?, comment Standard 2-pin 0.1" header. Use with <br> / - straight break away headers ( PRT-00116)<br> / - right angle break away headers (PRT-00553)<br> / - swiss pins (PRT-00743)<br> / - machine pins (PRT-00117)<br> / - female headers (PRT-00115)<br><br> / Molex polarized connector foot print use with: PRT-08233 with associated crimp pins and housings.<br><br> / 2.54_SCREWTERM for use with  PRT-10571.<br><br> / 3.5mm Screw Terminal footprints for  PRT-08084<br><br> / 5mm Screw Terminal footprints for use with PRT-08432
STOREFRONT_ID: PRT-08432
footprint SCREWTERMINAL-5MM-2
pins: 1, 2

## M25PTH
designator JP?, comment 1x25 .1" header
footprint 1X25
pins: 1, 2, 3, 4, 5, 6, 7, 8, 9, 10, 11, 12, 13, 14, 15, 16, 17, 18, 19, 20, 21, 22, 23, 24, 25

## M25PTH_LONGPADS
designator JP?, comment 1x25 .1" header
footprint 1X25_LONGPAD
pins: 1, 2, 3, 4, 5, 6, 7, 8, 9, 10, 11, 12, 13, 14, 15, 16, 17, 18, 19, 20, 21, 22, 23, 24, 25

## M27
designator JP?, comment 1x27 .1" header
footprint 1X27
pins: 1, 2, 3, 4, 5, 6, 7, 8, 9, 10, 11, 12, 13, 14, 15, 16, 17, 18, 19, 20, 21, 22, 23, 24, 25, 26, 27

## M29
designator JP?, comment 1x29 .1" header
footprint 1X30
pins: 1, 2, 3, 4, 5, 6, 7, 8, 9, 10, 11, 12, 13, 14, 15, 16, 17, 18, 19, 20, 21, 22, 23, 24, 25, 26, 27, 28, 29

## M29NO_SILK
designator JP?, comment 1x29 .1" header
footprint 1X29_NO_SILK
pins: 1, 2, 3, 4, 5, 6, 7, 8, 9, 10, 11, 12, 13, 14, 15, 16, 17, 18, 19, 20, 21, 22, 23, 24, 25, 26, 27, 28, 29

## M30
designator JP?, comment 1x30 .1" header
footprint 1X30
pins: 1, 2, 3, 4, 5, 6, 7, 8, 9, 10, 11, 12, 13, 14, 15, 16, 17, 18, 19, 20, 21, 22, 23, 24, 25, 26, 27, 28, 29, 30

## M30NO_SILK
designator JP?, comment 1x30 .1" header
footprint 1X30_NO_SILK
pins: 1, 2, 3, 4, 5, 6, 7, 8, 9, 10, 11, 12, 13, 14, 15, 16, 17, 18, 19, 20, 21, 22, 23, 24, 25, 26, 27, 28, 29, 30

## M031X03_NO_SILK
designator JP?, comment <b>Header 3</b> / Standard 3-pin 0.1" header. Use with straight break away headers (SKU : PRT-00116), right angle break away headers (PRT-00553), swiss pins (PRT-00743), machine pins (PRT-00117), and female headers (PRT-00115). Molex polarized connector foot print use with SKU : PRT-08232 with associated crimp pins and housings.
footprint 1X03_NO_SILK
pins: 1, 2, 3

## M031X03_SMD_RA_MALE_POST_SMALLER
designator JP?, comment <b>Header 3</b> / Standard 3-pin 0.1" header. Use with straight break away headers (SKU : PRT-00116), right angle break away headers (PRT-00553), swiss pins (PRT-00743), machine pins (PRT-00117), and female headers (PRT-00115). Molex polarized connector foot print use with SKU : PRT-08232 with associated crimp pins and housings.
footprint 1X03_SMD_RA_MALE_POST_SMALLER
pins: 1, 2, 3

## M031X03_SMD_RA_MALE_POST_SMALLEST
designator JP?, comment <b>Header 3</b> / Standard 3-pin 0.1" header. Use with straight break away headers (SKU : PRT-00116), right angle break away headers (PRT-00553), swiss pins (PRT-00743), machine pins (PRT-00117), and female headers (PRT-00115). Molex polarized connector foot print use with SKU : PRT-08232 with associated crimp pins and housings.
footprint 1X03_SMD_RA_MALE_POST_SMALLEST
pins: 1, 2, 3

## M40
designator JP?, comment 1x40 .1" header
footprint 1X40
pins: 1, 2, 3, 4, 5, 6, 7, 8, 9, 10, 11, 12, 13, 14, 15, 16, 17, 18, 19, 20, 21, 22, 23, 24, 25, 26, 27, 28, 29, 30, 31, 32, 33, 34, 35, 36, 37, 38, 39, 40

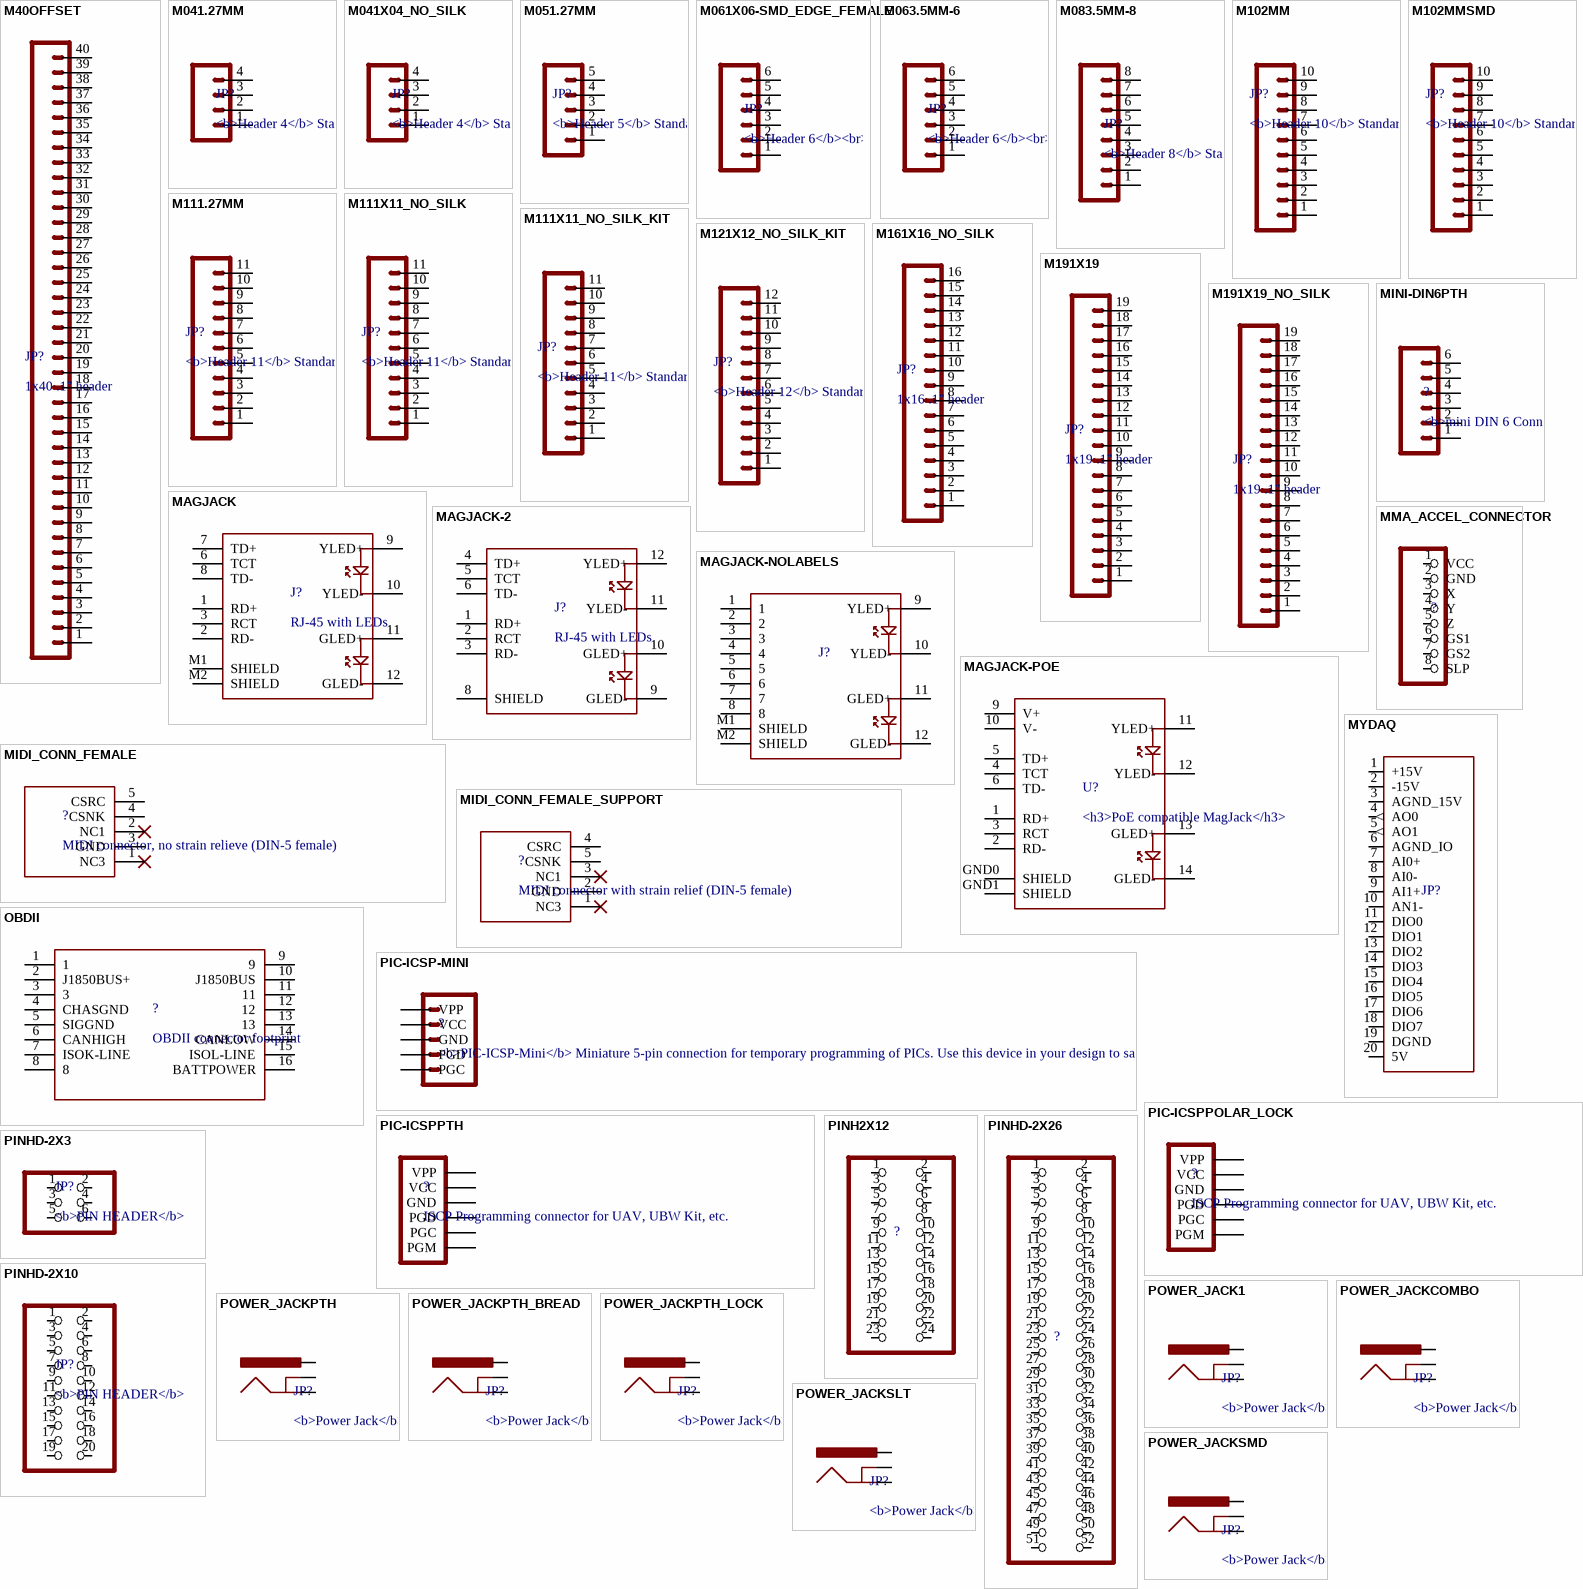
[diagram p11: symbols M40OFFSET to POWER_JACKSMD]

## M40OFFSET
designator JP?, comment 1x40 .1" header
footprint 1X40_OFFSET
pins: 1, 2, 3, 4, 5, 6, 7, 8, 9, 10, 11, 12, 13, 14, 15, 16, 17, 18, 19, 20, 21, 22, 23, 24, 25, 26, 27, 28, 29, 30, 31, 32, 33, 34, 35, 36, 37, 38, 39, 40

## M041.27MM
designator JP?, comment <b>Header 4</b> / Standard 4-pin 0.1" header. Use with straight break away headers (SKU : PRT-00116), right angle break away headers (PRT-00553), swiss pins (PRT-00743), machine pins (PRT-00117), and female headers (PRT-00115). Molex polarized connector foot print use with SKU : PRT-08231 with associated crimp pins and housings. 1MM SMD Version SKU: PRT-10208
footprint 1X04-1.27MM
pins: 1, 2, 3, 4

## M041X04_NO_SILK
designator JP?, comment <b>Header 4</b> / Standard 4-pin 0.1" header. Use with straight break away headers (SKU : PRT-00116), right angle break away headers (PRT-00553), swiss pins (PRT-00743), machine pins (PRT-00117), and female headers (PRT-00115). Molex polarized connector foot print use with SKU : PRT-08231 with associated crimp pins and housings. 1MM SMD Version SKU: PRT-10208
footprint 1X04_NO_SILK
pins: 1, 2, 3, 4

## M051.27MM
designator JP?, comment <b>Header 5</b> / Standard 5-pin 0.1" header. Use with straight break away headers (SKU : PRT-00116), right angle break away headers (PRT-00553), swiss pins (PRT-00743), machine pins (PRT-00117), and female headers (PRT-00115). Molex polarized connector foot print use with SKU : PRT-08230 with associated crimp pins and housings.
footprint 1X05-1.27MM
pins: 1, 2, 3, 4, 5

## M061X06-SMD_EDGE_FEMALE
designator JP?, comment <b>Header 6</b><br> / Standard 6-pin 0.1" header. Use with straight break away headers (SKU : PRT-00116), right angle break away headers (PRT-00553), swiss pins (PRT-00743), machine pins (PRT-00117), and female headers (PRT-00115). Molex polarized connector foot print use with SKU : PRT-08094 with associated crimp pins and housings.<p> / NOTES ON THE VARIANTS LOCK and LOCK_LONGPADS... / This footprint was designed to help hold the alignment of a through-hole component (i.e.  6-pin header) while soldering it into place. You may notice that each hole has been shifted either up or down by 0.005 of an inch from it's more standard position (which is a perfectly straight line).  This slight alteration caused the pins (the squares in the middle) to touch the edges of the holes.  Because they are alternating, it causes a "brace" to hold the component in place.  0.005 has proven to be the perfect amount of "off-center" position when using our standard breakaway headers. Although looks a little odd when you look at the bare footprint, once you have a header in there, the alteration is very hard to notice.  Also,if you push a header all the way into place, it is covered up entirely on the bottom side.  This idea of altering the position of holes to aid alignment / will be further integrated into the Sparkfun Library for other footprints.  It can help hold any component with 3 or more connection pins.
footprint 1X06-SMD_EDGE
pins: 1, 2, 3, 4, 5, 6

## M063.5MM-6
designator JP?, comment <b>Header 6</b><br> / Standard 6-pin 0.1" header. Use with straight break away headers (SKU : PRT-00116), right angle break away headers (PRT-00553), swiss pins (PRT-00743), machine pins (PRT-00117), and female headers (PRT-00115). Molex polarized connector foot print use with SKU : PRT-08094 with associated crimp pins and housings.<p> / NOTES ON THE VARIANTS LOCK and LOCK_LONGPADS... / This footprint was designed to help hold the alignment of a through-hole component (i.e.  6-pin header) while soldering it into place. You may notice that each hole has been shifted either up or down by 0.005 of an inch from it's more standard position (which is a perfectly straight line).  This slight alteration caused the pins (the squares in the middle) to touch the edges of the holes.  Because they are alternating, it causes a "brace" to hold the component in place.  0.005 has proven to be the perfect amount of "off-center" position when using our standard breakaway headers. Although looks a little odd when you look at the bare footprint, once you have a header in there, the alteration is very hard to notice.  Also,if you push a header all the way into place, it is covered up entirely on the bottom side.  This idea of altering the position of holes to aid alignment / will be further integrated into the Sparkfun Library for other footprints.  It can help hold any component with 3 or more connection pins.
footprint SCREWTERMINAL-3.5MM-6
pins: 1, 2, 3, 4, 5, 6

## M083.5MM-8
designator JP?, comment <b>Header 8</b> / Standard 8-pin 0.1" header. Use with straight break away headers (SKU : PRT-00116), right angle break away headers (PRT-00553), swiss pins (PRT-00743), machine pins (PRT-00117), and female headers (PRT-00115).
footprint SCREWTERMINAL-3.5MM-8
pins: 1, 2, 3, 4, 5, 6, 7, 8

## M102MM
designator JP?, comment <b>Header 10</b> / Standard 10-pin 0.1" header. Use with straight break away headers (SKU : PRT-00116), right angle break away headers (PRT-00553), swiss pins (PRT-00743), machine pins (PRT-00117), and female headers (PRT-00115).
footprint 1X10-2MM
pins: 1, 2, 3, 4, 5, 6, 7, 8, 9, 10

## M102MMSMD
designator JP?, comment <b>Header 10</b> / Standard 10-pin 0.1" header. Use with straight break away headers (SKU : PRT-00116), right angle break away headers (PRT-00553), swiss pins (PRT-00743), machine pins (PRT-00117), and female headers (PRT-00115).
footprint 1X10-2MM-SMD
pins: 1, 2, 3, 4, 5, 6, 7, 8, 9, 10

## M111.27MM
designator JP?, comment <b>Header 11</b> / Standard 11-pin 0.1" header. Use with straight break away headers (SKU : PRT-00116), right angle break away headers (PRT-00553), swiss pins (PRT-00743), machine pins (PRT-00117), and female headers (PRT-00115).
footprint 1X11-1.27MM
pins: 1, 2, 3, 4, 5, 6, 7, 8, 9, 10, 11

## M111X11_NO_SILK
designator JP?, comment <b>Header 11</b> / Standard 11-pin 0.1" header. Use with straight break away headers (SKU : PRT-00116), right angle break away headers (PRT-00553), swiss pins (PRT-00743), machine pins (PRT-00117), and female headers (PRT-00115).
footprint 1X11_NO_SILK
pins: 1, 2, 3, 4, 5, 6, 7, 8, 9, 10, 11

## M111X11_NO_SILK_KIT
designator JP?, comment <b>Header 11</b> / Standard 11-pin 0.1" header. Use with straight break away headers (SKU : PRT-00116), right angle break away headers (PRT-00553), swiss pins (PRT-00743), machine pins (PRT-00117), and female headers (PRT-00115).
footprint 1X11_NO_SILK_KIT
pins: 1, 2, 3, 4, 5, 6, 7, 8, 9, 10, 11

## M121X12_NO_SILK_KIT
designator JP?, comment <b>Header 12</b> / Standard 12-pin 0.1" header. Use with straight break away headers (SKU : PRT-00116), right angle break away headers (PRT-00553), swiss pins (PRT-00743), machine pins (PRT-00117), and female headers (PRT-00115).
footprint 1X12_NO_SILK_KIT
pins: 1, 2, 3, 4, 5, 6, 7, 8, 9, 10, 11, 12

## M161X16_NO_SILK
designator JP?, comment 1x16 .1" header
footprint 1X16_NO_SILK
pins: 1, 2, 3, 4, 5, 6, 7, 8, 9, 10, 11, 12, 13, 14, 15, 16

## M191X19
designator JP?, comment 1x19 .1" header
footprint 1X19
pins: 1, 2, 3, 4, 5, 6, 7, 8, 9, 10, 11, 12, 13, 14, 15, 16, 17, 18, 19

## M191X19_NO_SILK
designator JP?, comment 1x19 .1" header
footprint 1X19_NO_SILK
pins: 1, 2, 3, 4, 5, 6, 7, 8, 9, 10, 11, 12, 13, 14, 15, 16, 17, 18, 19

## MAGJACK
designator J?, comment RJ-45 with LEDs
footprint MAGJACK
pins: 1 RD+, 2 RD-, 3 RCT, 6 TCT, 7 TD+, 8 TD-, 9 YLED+, 10 YLED-, 11 GLED+, 12 GLED-, M1 SHIELD, M2 SHIELD

## MAGJACK-2
designator J?, comment RJ-45 with LEDs
footprint MAGJACK-19938
pins: 1 RD+, 2 RCT, 3 RD-, 4 TD+, 5 TCT, 6 TD-, 8 SHIELD, 9 GLED-, 10 GLED+, 11 YLED-, 12 YLED+

## MAGJACK-NOLABELS
designator J?
PROD_ID: CONN-09556
footprint MAGJACK
pins: 1, 2, 3, 4, 5, 6, 7, 8, 9 YLED+, 10 YLED-, 11 GLED+, 12 GLED-, M1 SHIELD, M2 SHIELD

## MAGJACK-POE
designator U?, comment <h3>PoE compatible MagJack</h3>
footprint MAGJACK-POE
pins: 1 RD+, 2 RD-, 3 RCT, 4 TCT, 5 TD+, 6 TD-, 9 V+, 10 V-, 11 YLED+, 12 YLED-, 13 GLED+, 14 GLED-, GND0 SHIELD, GND1 SHIELD

## MIDI_CONN_FEMALE
designator ?, comment MIDI connector, no strain relieve (DIN-5 female)
footprint DIN_5_FEMALE
pins: 1 NC3, 2 NC1, 3 GND, 4 CSNK, 5 CSRC

## MIDI_CONN_FEMALE_SUPPORT
designator ?, comment MIDI connector with strain relief (DIN-5 female)
footprint DIN_5_FEMALE_SUPPORT
pins: 1 NC3, 2 GND, 3 NC1, 4 CSRC, 5 CSNK

## MINI-DIN6PTH
designator ?, comment <b>mini DIN 6 Connector</b> / Commonly found on the back of a computer for PS2 keyboard and mice. Schematic and footprint are proven. Spark Fun Electronics SKU : PRT-08509
footprint MINI-DIN6
pins: 1, 2, 3, 4, 5, 6

## MMA_ACCEL_CONNECTOR
designator ?
footprint 1X08
pins: 1 VCC, 2 GND, 3 X, 4 Y, 5 Z, 6 GS1, 7 GS2, 8 SLP

## MYDAQ
designator JP?
footprint 3.81MM_TERMINAL_BLOCK_FEMALE_LOCKING
pins: 1 +15V (power), 2 -15V (power), 3 AGND_15V (power), 4 AO0 (out), 5 AO1 (out), 6 AGND_IO (power), 7 AI0+, 8 AI0-, 9 AI1+, 10 AN1-, 11 DIO0, 12 DIO1, 13 DIO2, 14 DIO3, 15 DIO4, 16 DIO5, 17 DIO6, 18 DIO7, 19 DGND (power), 20 5V (power)

## OBDII
designator ?, comment OBDII connector footprint
footprint OBDII
pins: 1, 2 J1850BUS+, 3, 4 CHASGND, 5 SIGGND, 6 CANHIGH, 7 ISOK-LINE, 8, 9, 10 J1850BUS, 11, 12, 13, 14 CANLOW, 15 ISOL-LINE, 16 BATTPOWER

## PIC-ICSP-MINI
designator ?, comment <b>PIC-ICSP-Mini</b> / Miniature 5-pin connection for temporary programming of PICs. Use this device in your design to save space. Program the PIC with this adapter Spark Fun Electronics SKU : BOB-00194
footprint PIC-ICSP-MINI
pins: 1 VPP, 2 VCC, 3 GND, 4 PGD, 5 PGC

## PIC-ICSPPOLAR_LOCK
designator ?, comment ISCP Programming connector for UAV, UBW Kit, etc.
footprint MOLEX-1X6_LOCK
pins: 1 PGM, 2 PGC, 3 PGD, 4 GND, 5 VCC, 6 VPP

## PIC-ICSPPTH
designator ?, comment ISCP Programming connector for UAV, UBW Kit, etc.
footprint MOLEX-1X6
pins: 1 PGM, 2 PGC, 3 PGD, 4 GND, 5 VCC, 6 VPP

## PINH2X12
designator ?
footprint 2X12
pins: 1, 2, 3, 4, 5, 6, 7, 8, 9, 10, 11, 12, 13, 14, 15, 16, 17, 18, 19, 20, 21, 22, 23, 24

## PINHD-2X3
designator JP?, comment <b>PIN HEADER</b>
footprint 2X03
pins: 1, 2, 3, 4, 5, 6

## PINHD-2X10
designator JP?, comment <b>PIN HEADER</b>
footprint 2X10
pins: 1, 2, 3, 4, 5, 6, 7, 8, 9, 10, 11, 12, 13, 14, 15, 16, 17, 18, 19, 20

## PINHD-2X26
designator ?
footprint 2X26
pins: 1, 2, 3, 4, 5, 6, 7, 8, 9, 10, 11, 12, 13, 14, 15, 16, 17, 18, 19, 20, 21, 22, 23, 24, 25, 26, 27, 28, 29, 30, 31, 32, 33, 34, 35, 36, 37, 38, 39, 40, 41, 42, 43, 44, 45, 46, 47, 48, 49, 50, 51, 52

## POWER_JACK1
designator JP?, comment <b>Power Jack</b> / This is the standard 5.5mm barrel jack for power.<br> / The PTH is the most common, proven, reliable, footprint.<br> / The Slot footprint only works if the mill layer is transmitted to the PCB fab house so be warned.<br> / Mating wall wart : TOL-00298 (and others)
footprint POWER_JACK_SMD_OVERPASTE_REDBOARD_0603
pins: GND GNDBREAK, P$4 GND, VIN0 PWR

## POWER_JACKCOMBO
designator JP?, comment <b>Power Jack</b> / This is the standard 5.5mm barrel jack for power.<br> / The PTH is the most common, proven, reliable, footprint.<br> / The Slot footprint only works if the mill layer is transmitted to the PCB fab house so be warned.<br> / Mating wall wart : TOL-00298 (and others)
footprint POWER_JACK_COMBO
pins: GND GNDBREAK, GND@1 GND, POWER PWR

## POWER_JACKPTH
designator JP?, comment <b>Power Jack</b> / This is the standard 5.5mm barrel jack for power.<br> / The PTH is the most common, proven, reliable, footprint.<br> / The Slot footprint only works if the mill layer is transmitted to the PCB fab house so be warned.<br> / Mating wall wart : TOL-00298 (and others)
PROD_ID: CONN-08197
footprint POWER_JACK_PTH
pins: GND, GNDBREAK, PWR

## POWER_JACKPTH_BREAD
designator JP?, comment <b>Power Jack</b> / This is the standard 5.5mm barrel jack for power.<br> / The PTH is the most common, proven, reliable, footprint.<br> / The Slot footprint only works if the mill layer is transmitted to the PCB fab house so be warned.<br> / Mating wall wart : TOL-00298 (and others)
PROD_ID: PRT-10811
footprint POWER_JACK_PTH_BREAD
pins: GND, GNDBREAK, PWR

## POWER_JACKPTH_LOCK
designator JP?, comment <b>Power Jack</b> / This is the standard 5.5mm barrel jack for power.<br> / The PTH is the most common, proven, reliable, footprint.<br> / The Slot footprint only works if the mill layer is transmitted to the PCB fab house so be warned.<br> / Mating wall wart : TOL-00298 (and others)
PROD_ID: CONN-08197; SF_ID: PRT-00119
footprint POWER_JACK_PTH_LOCK
pins: GND, GNDBREAK, PWR

## POWER_JACKSLT
designator JP?, comment <b>Power Jack</b> / This is the standard 5.5mm barrel jack for power.<br> / The PTH is the most common, proven, reliable, footprint.<br> / The Slot footprint only works if the mill layer is transmitted to the PCB fab house so be warned.<br> / Mating wall wart : TOL-00298 (and others)
PROD_ID: PRT-00119
footprint POWER_JACK_SLOT
pins: GND@1 GNDBREAK, GND@2 GND, PWR

## POWER_JACKSMD
designator JP?, comment <b>Power Jack</b> / This is the standard 5.5mm barrel jack for power.<br> / The PTH is the most common, proven, reliable, footprint.<br> / The Slot footprint only works if the mill layer is transmitted to the PCB fab house so be warned.<br> / Mating wall wart : TOL-00298 (and others)
PROD_ID: CONN-08106; SF_ID: PRT-12748
footprint POWER_JACK_SMD
pins: GND GNDBREAK, P$4 GND, VIN0 PWR

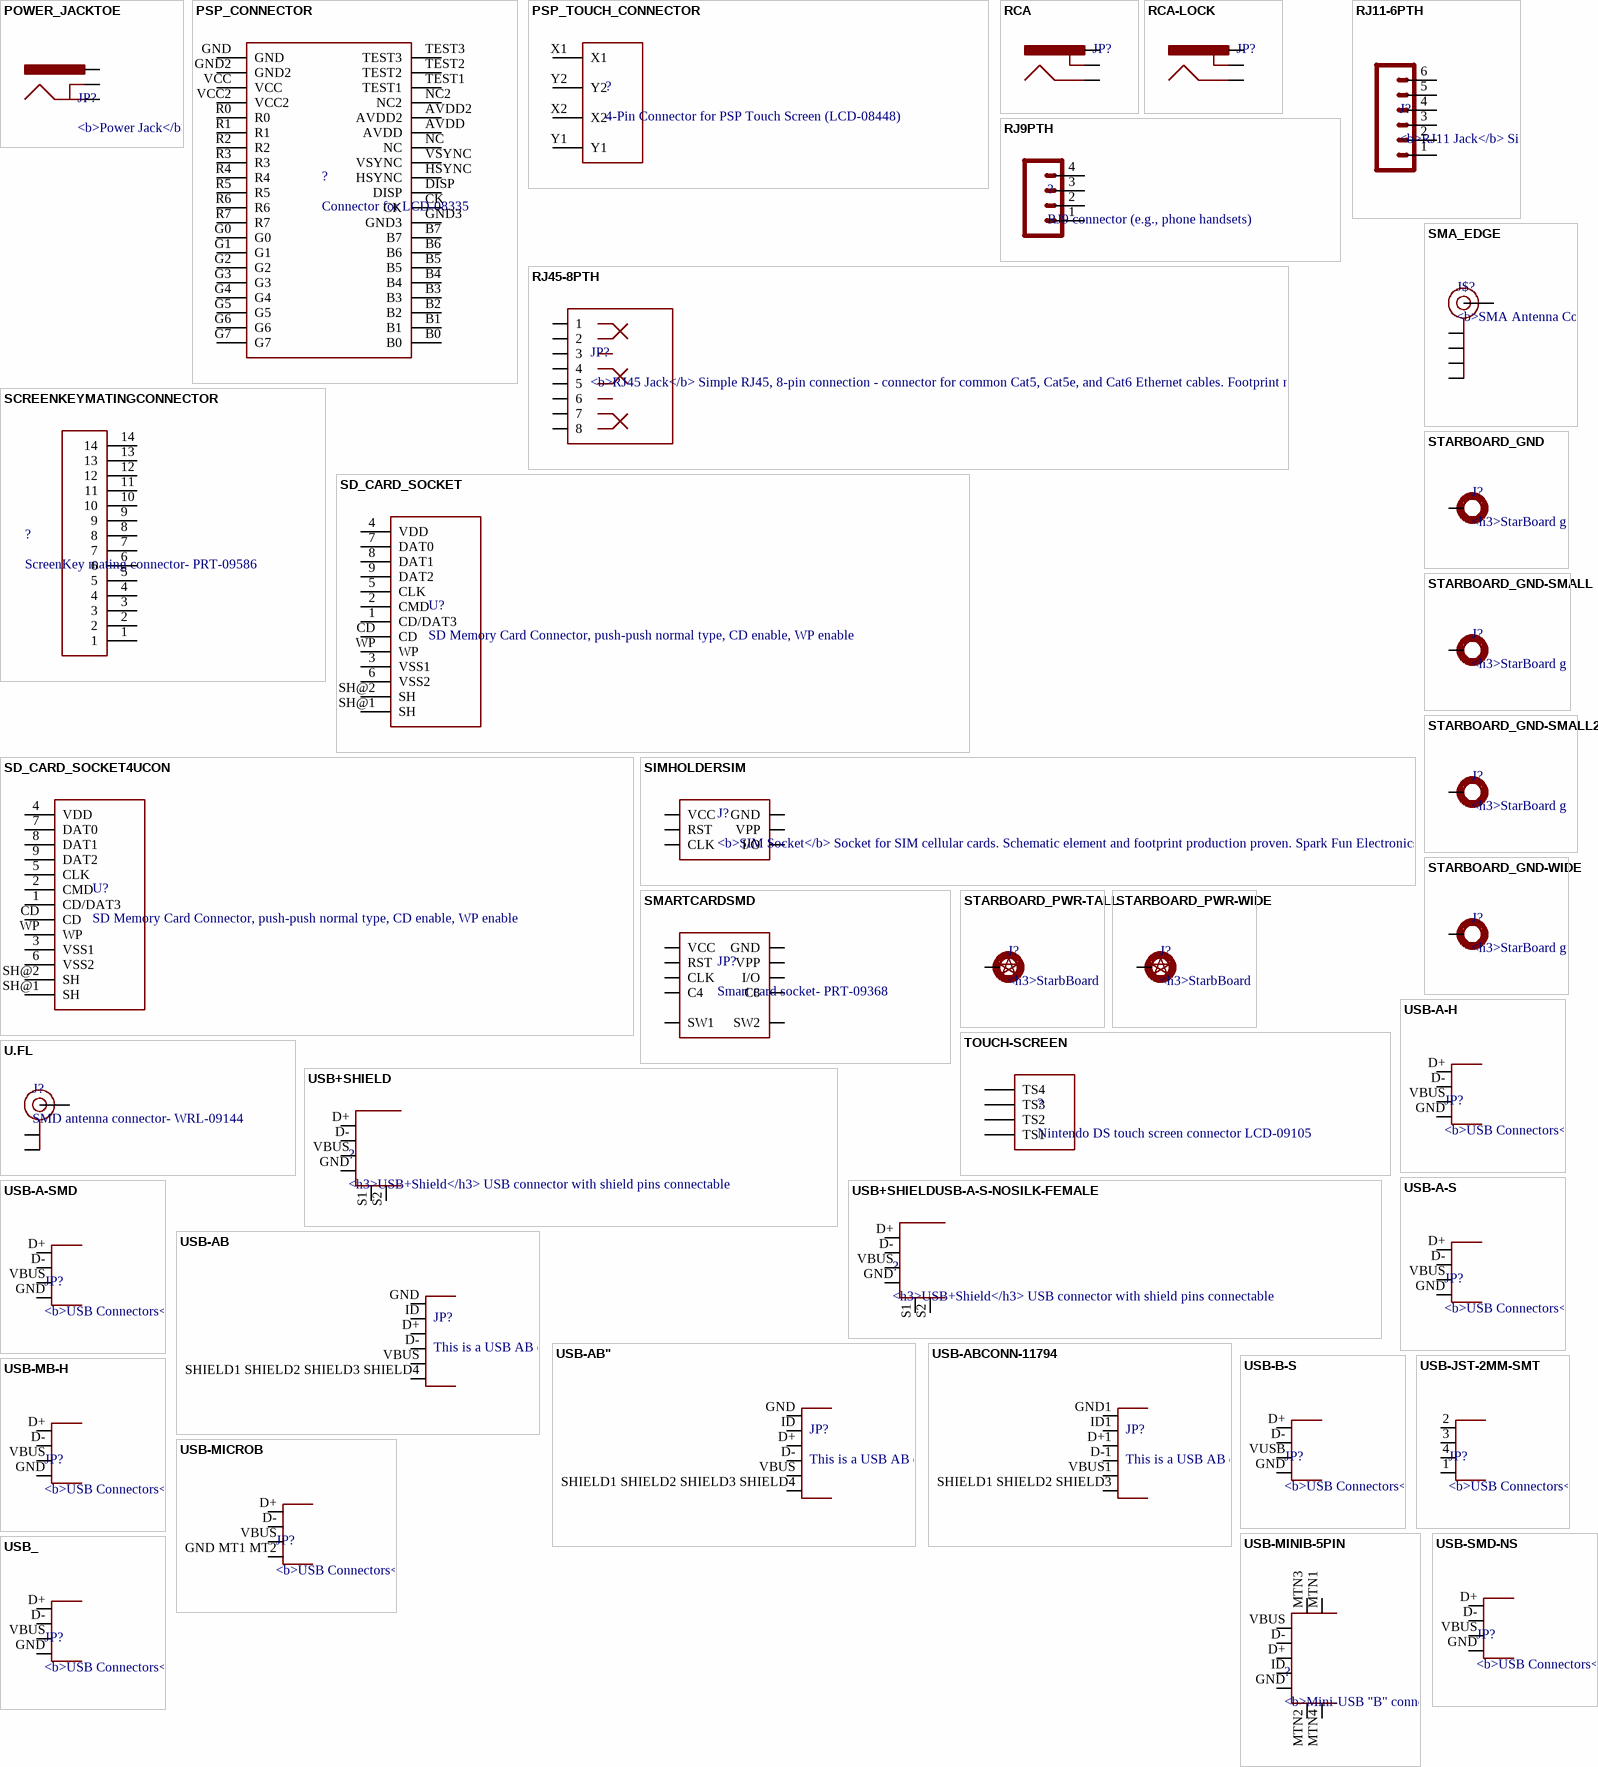
[diagram p12: symbols POWER_JACKTOE to USB_]

## POWER_JACKTOE
designator JP?, comment <b>Power Jack</b> / This is the standard 5.5mm barrel jack for power.<br> / The PTH is the most common, proven, reliable, footprint.<br> / The Slot footprint only works if the mill layer is transmitted to the PCB fab house so be warned.<br> / Mating wall wart : TOL-00298 (and others)
footprint POWER_JACK_SMD_OVERPASTE_TOE
pins: GND GNDBREAK, P$4 GND, VIN0 PWR

## PSP_CONNECTOR
designator ?, comment Connector for LCD-08335
footprint PSP_CONNECTOR
pins: AVDD, AVDD2, B0, B1, B2, B3, B4, B5, B6, B7, CK, DISP, G0, G1, G2, G3, G4, G5, G6, G7, GND, GND2, GND3, HSYNC, NC, NC2, R0, R1, R2, R3, R4, R5, R6, R7, TEST1, TEST2, TEST3, VCC, VCC2, VSYNC

## PSP_TOUCH_CONNECTOR
designator ?, comment 4-Pin Connector for PSP Touch Screen (LCD-08448)
footprint PSP_TOUCH_CONNECTOR
pins: X1, X2, Y1, Y2

## RCA
designator JP?
footprint RCA
pins: PIN, SHELL, SWITCH

## RCA-LOCK
designator JP?
footprint RCA_LOCK
pins: PIN, SHELL, SWITCH

## RJ9PTH
designator ?, comment RJ9 connector (e.g., phone handsets)
footprint RJ9
pins: 1, 2, 3, 4

## RJ11-6PTH
designator J?, comment <b>RJ11 Jack</b> / Simple 6 pin RJ11 jack. Commonly found on CAT3 devices and Microchip programmers. SKU: PRT-00132
PROD_ID: CONN-08590
footprint RJ11-6
pins: 1, 2, 3, 4, 5, 6

## RJ45-8PTH
designator JP?, comment <b>RJ45 Jack</b> / Simple RJ45, 8-pin connection - connector for common Cat5, Cat5e, and Cat6 Ethernet cables. Footprint not yet proven in production. Connector sku is PRT-00643; Breakout PCB sku is BOB-00716.
PROD_ID: CONN-08506
footprint RJ45-8
pins: 1, 2, 3, 4, 5, 6, 7, 8